# Altium schematic symbol library IC.SchLib: 114 symbols (part 2 of 3)
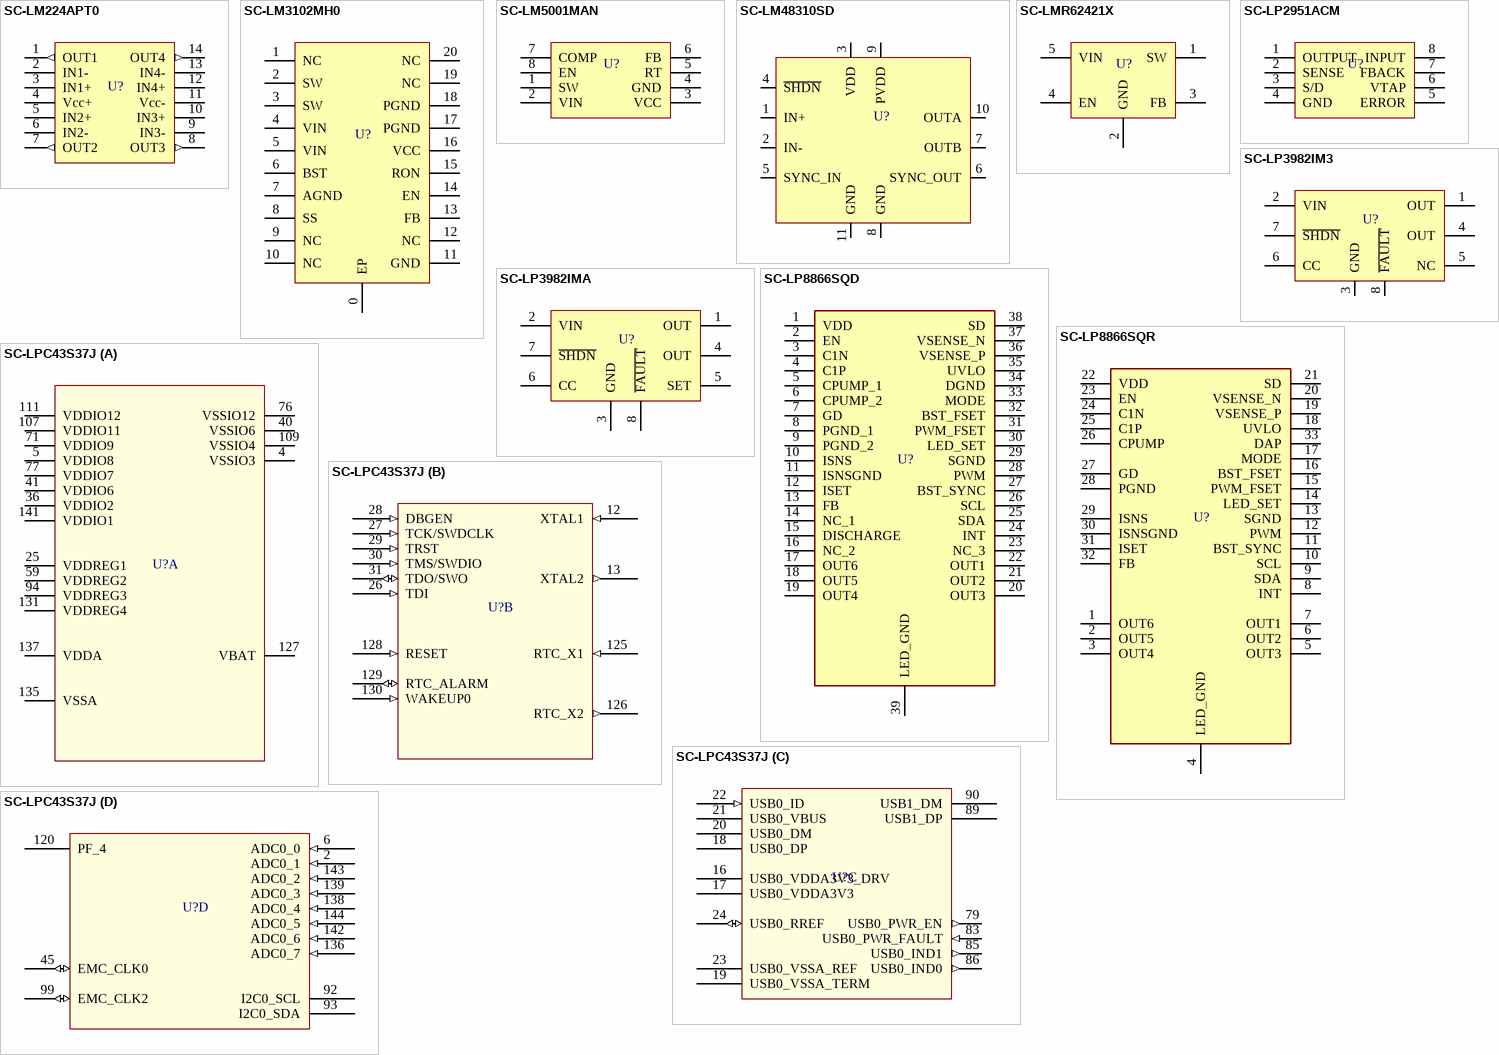
[diagram p8: symbols SC-LM224APT0 to SC-LPC43S37J]

## SC-LP8866SQR
designator U?
LED Driver IC 6 Output DC DC Controller SEPIC, Step-Up (Boost) Analog, I²C, PWM Dimming 150mA 32-VQFN (5x5); Manufacturer Part Number: LP8866SQRHBRQ1; Manufacturer: Texas Instruments; Working Temperature: -40°C ~ 125°C; Temperature Coefficient: NC; Short Description: AUTOMOTIVE DISPLAY LED-BACKLIGHT; Value: NC; Mounting: SMT; Power: NC; Type: NC; Frequency: NC; Alternate Part Number 1: *; Alternate Part Number 2: *; Tolerance: NC; Current: NC; Revision Date: 28/01/2022; Package Reference: VQFN-32_5x5; Voltage: NC; ComponentLink1Description: Datasheet; ComponentLink1URL: https://www.ti.com/lit/gpn/lp8866-q1
footprint VQFN-32_5x5 (32-VFQFN Exposed Pad)
pins: 1 OUT6, 2 OUT5, 3 OUT4, 4 LED_GND, 5 OUT3, 6 OUT2, 7 OUT1, 8 INT, 9 SDA, 10 SCL, 11 BST_SYNC, 12 PWM, 13 SGND, 14 LED_SET, 15 PWM_FSET, 16 BST_FSET, 17 MODE, 18 UVLO, 19 VSENSE_P, 20 VSENSE_N, 21 SD, 22 VDD, 23 EN, 24 C1N, 25 C1P, 26 CPUMP, 27 GD, 28 PGND, 29 ISNS, 30 ISNSGND, 31 ISET, 32 FB, 33 DAP

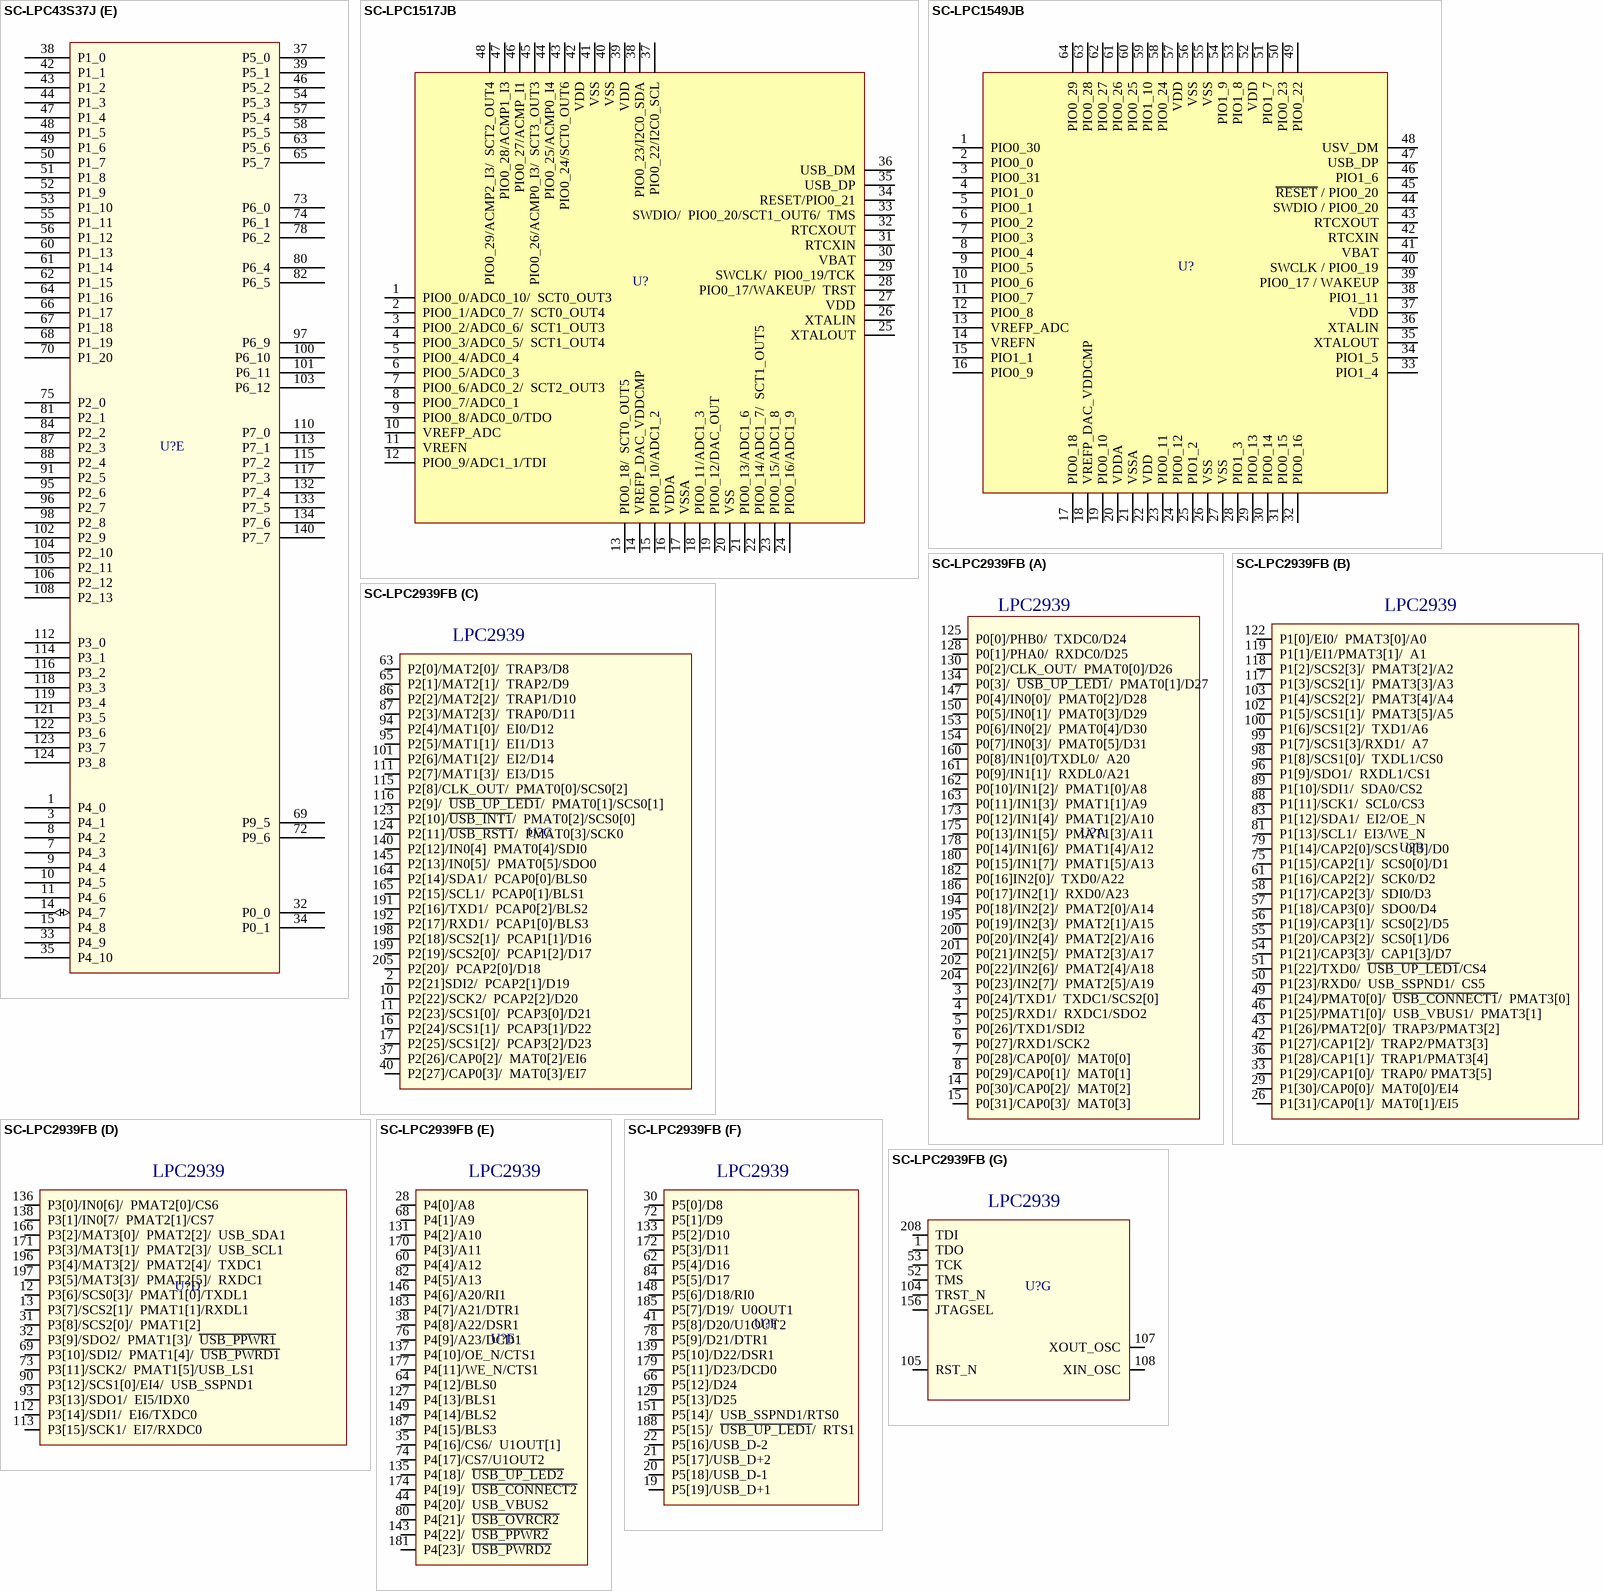
[diagram p4: symbols SC-LPC43S37J to SC-LPC2939FB]

## SC-LPC43S37J
designator U?
ARM® Cortex®-M4/M0 series Microcontroller IC 32-Bit Dual-Core 204MHz 1MB (1M x 8) FLASH 144-LQFP (20x20); Manufacturer Part Number: LPC43S37JBD144E; Manufacturer: NXP USA Inc.; Working Temperature: -40°C ~ 105°C (TA); Temperature Coefficient: NC; Short Description: IC MCU 32BIT 1MB FLASH 144LQFP; Ratings: REACH, ROHS3; Voltage: 2.2V ~ 3.6V; Value: NC; Mounting: SMT; Power: NC; Type: ARM® Cortex®-M4/M0; Frequency: 204MHz; Alternate Part Number 1: *; Alternate Part Number 2: *; Tolerance: NC; Current: NC; Revision Date: 03/08/21; Package Reference: LQFP-144
footprint LQFP-144 (Footprint not found)
part A pins: 4 VSSIO3 (power), 5 VDDIO8 (power), 25 VDDREG1 (power), 36 VDDIO2 (power), 40 VSSIO6 (power), 41 VDDIO6 (power), 59 VDDREG2 (power), 71 VDDIO9 (power), 76 VSSIO12 (power), 77 VDDIO7 (power), 94 VDDREG3 (power), 107 VDDIO11 (power), 109 VSSIO4 (power), 111 VDDIO12 (power), 127 VBAT (power), 131 VDDREG4 (power), 135 VSSA (power), 137 VDDA (power), 141 VDDIO1 (power)
part B pins: 12 XTAL1 (in), 13 XTAL2 (out), 26 TDI (in), 27 TCK/SWDCLK (in), 28 DBGEN (in), 29 TRST (in), 30 TMS/SWDIO (in), 31 TDO/SWO (io), 125 RTC_X1 (in), 126 RTC_X2 (out), 128 RESET (in), 129 RTC_ALARM (io), 130 WAKEUP0 (in)
part C pins: 16 USB0_VDDA3V3_DRV (power), 17 USB0_VDDA3V3 (power), 18 USB0_DP (hiz), 19 USB0_VSSA_TERM (power), 20 USB0_DM (hiz), 21 USB0_VBUS (hiz), 22 USB0_ID (in), 23 USB0_VSSA_REF (power), 24 USB0_RREF (io), 79 USB0_PWR_EN (out), 83 USB0_PWR_FAULT (in), 85 USB0_IND1 (out), 86 USB0_IND0 (out), 89 USB1_DP (hiz), 90 USB1_DM (hiz)
part D pins: 2 ADC0_1 (in), 6 ADC0_0 (in), 45 EMC_CLK0 (io), 92 I2C0_SCL (hiz), 93 I2C0_SDA (hiz), 99 EMC_CLK2 (io), 120 PF_4 (hiz), 136 ADC0_7 (in), 138 ADC0_4 (in), 139 ADC0_3 (in), 142 ADC0_6 (in), 143 ADC0_2 (in), 144 ADC0_5 (in)
part E pins: 1 P4_0 (hiz), 3 P4_1 (hiz), 7 P4_3 (hiz), 8 P4_2 (hiz), 9 P4_4 (hiz), 10 P4_5 (hiz), 11 P4_6 (hiz), 14 P4_7 (io), 15 P4_8 (hiz), 32 P0_0 (hiz), 33 P4_9 (hiz), 34 P0_1 (hiz), 35 P4_10 (hiz), 37 P5_0 (hiz), 38 P1_0 (hiz), 39 P5_1 (hiz), 42 P1_1 (hiz), 43 P1_2 (hiz), 44 P1_3 (hiz), 46 P5_2 (hiz), 47 P1_4 (hiz), 48 P1_5 (hiz), 49 P1_6 (hiz), 50 P1_7 (hiz), 51 P1_8 (hiz), 52 P1_9 (hiz), 53 P1_10 (hiz), 54 P5_3 (hiz), 55 P1_11 (hiz), 56 P1_12 (hiz), 57 P5_4 (hiz), 58 P5_5 (hiz), 60 P1_13 (hiz), 61 P1_14 (hiz), 62 P1_15 (hiz), 63 P5_6 (hiz), 64 P1_16 (hiz), 65 P5_7 (hiz), 66 P1_17 (hiz), 67 P1_18 (hiz), 68 P1_19 (hiz), 69 P9_5 (hiz), 70 P1_20 (hiz), 72 P9_6 (hiz), 73 P6_0 (hiz), 74 P6_1 (hiz), 75 P2_0 (hiz), 78 P6_2 (hiz), 80 P6_4 (hiz), 81 P2_1 (hiz), 82 P6_5 (hiz), 84 P2_2 (hiz), 87 P2_3 (hiz), 88 P2_4 (hiz), 91 P2_5 (hiz), 95 P2_6 (hiz), 96 P2_7 (hiz), 97 P6_9 (hiz), 98 P2_8 (hiz), 100 P6_10 (hiz), 101 P6_11 (hiz), 102 P2_9 (hiz), 103 P6_12 (hiz), 104 P2_10 (hiz), 105 P2_11 (hiz), 106 P2_12 (hiz), 108 P2_13 (hiz), 110 P7_0 (hiz), 112 P3_0 (hiz), 113 P7_1 (hiz), 114 P3_1 (hiz), 115 P7_2 (hiz), 116 P3_2 (hiz), 117 P7_3 (hiz), 118 P3_3 (hiz), 119 P3_4 (hiz), 121 P3_5 (hiz), 122 P3_6 (hiz), 123 P3_7 (hiz), 124 P3_8 (hiz), 132 P7_4 (hiz), 133 P7_5 (hiz), 134 P7_6 (hiz), 140 P7_7 (hiz)

## SC-LPC1517JB
designator U?
ARM® Cortex®-M3 series Microcontroller IC 32-Bit 72MHz 64KB (64K x 8) FLASH 48-LQFP (7x7); Manufacturer Part Number: LPC1517JBD48E; Manufacturer: NXP USA Inc.; Working Temperature: -40°C ~ 105°C (TA); Temperature Coefficient: NC; Short Description: IC MCU 32BIT 64KB FLASH 48LQFP; Ratings: REACH, ROHS3; Voltage: 2.4V ~ 3.6V; Value: NC; Mounting: SMT; Power: NC; Type: ARM® Cortex®-M3; Frequency: 72MHz; Alternate Part Number 1: *; Alternate Part Number 2: *; Tolerance: NC; Current: NC; Revision Date: 03/08/21; Package Reference: LQFP-48
footprint LQFP-48 (Footprint not found)
pins: 1 PIO0_0/ADC0_10/  SCT0_OUT3, 2 PIO0_1/ADC0_7/  SCT0_OUT4, 3 PIO0_2/ADC0_6/  SCT1_OUT3, 4 PIO0_3/ADC0_5/  SCT1_OUT4, 5 PIO0_4/ADC0_4, 6 PIO0_5/ADC0_3, 7 PIO0_6/ADC0_2/  SCT2_OUT3, 8 PIO0_7/ADC0_1, 9 PIO0_8/ADC0_0/TDO, 10 VREFP_ADC, 11 VREFN, 12 PIO0_9/ADC1_1/TDI, 13 PIO0_18/  SCT0_OUT5, 14 VREFP_DAC_VDDCMP, 15 PIO0_10/ADC1_2, 16 VDDA, 17 VSSA, 18 PIO0_11/ADC1_3, 19 PIO0_12/DAC_OUT, 20 VSS, 21 PIO0_13/ADC1_6, 22 PIO0_14/ADC1_7/  SCT1_OUT5, 23 PIO0_15/ADC1_8, 24 PIO0_16/ADC1_9, 25 XTALOUT, 26 XTALIN, 27 VDD, 28 PIO0_17/WAKEUP/  TRST, 29 SWCLK/  PIO0_19/TCK, 30 VBAT, 31 RTCXIN, 32 RTCXOUT, 33 SWDIO/  PIO0_20/SCT1_OUT6/  TMS, 34 RESET/PIO0_21, 35 USB_DP, 36 USB_DM, 37 PIO0_22/I2C0_SCL, 38 PIO0_23/I2C0_SDA, 39 VDD, 40 VSS, 41 VSS, 42 VDD, 43 PIO0_24/SCT0_OUT6, 44 PIO0_25/ACMP0_I4, 45 PIO0_26/ACMP0_I3/  SCT3_OUT3, 46 PIO0_27/ACMP_I1, 47 PIO0_28/ACMP1_I3, 48 PIO0_29/ACMP2_I3/  SCT2_OUT4

## SC-LPC1549JB
designator U?
ARM® Cortex®-M3 series Microcontroller IC 32-Bit 72MHz 256KB (256K x 8) FLASH 64-LQFP (10x10); Manufacturer Part Number: LPC1549JBD64QL; Manufacturer: NXP USA Inc.; Working Temperature: -40°C ~ 105°C (TA); Temperature Coefficient: NC; Short Description: IC MCU 32BIT 256KB FLASH 64LQFP; Ratings: REACH, ROHS3; Voltage: 2.4V ~ 3.6V; Value: NC; Mounting: SMT; Power: NC; Type: ARM® Cortex®-M3; Frequency: 72MHz; Alternate Part Number 1: *; Alternate Part Number 2: *; Tolerance: NC; Current: NC; Revision Date: 03/08/21; Package Reference: LQFP-64
footprint LQFP-64 (Footprint not found)
pins: 1 PIO0_30, 2 PIO0_0, 3 PIO0_31, 4 PIO1_0, 5 PIO0_1, 6 PIO0_2, 7 PIO0_3, 8 PIO0_4, 9 PIO0_5, 10 PIO0_6, 11 PIO0_7, 12 PIO0_8, 13 VREFP_ADC, 14 VREFN, 15 PIO1_1, 16 PIO0_9, 17 PIO0_18, 18 VREFP_DAC_VDDCMP, 19 PIO0_10, 20 VDDA, 21 VSSA, 22 VDD, 23 PIO0_11, 24 PIO0_12, 25 PIO1_2, 26 VSS, 27 VSS, 28 PIO1_3, 29 PIO0_13, 30 PIO0_14, 31 PIO0_15, 32 PIO0_16, 33 PIO1_4, 34 PIO1_5, 35 XTALOUT, 36 XTALIN, 37 VDD, 38 PIO1_11, 39 PIO0_17 / WAKEUP, 40 SWCLK / PIO0_19, 41 VBAT, 42 RTCXIN, 43 RTCXOUT, 44 SWDIO / PIO0_20, 45 ~{RESET} / PIO0_20, 46 PIO1_6, 47 USB_DP, 48 USV_DM, 49 PIO0_22, 50 PIO0_23, 51 PIO1_7, 52 VDD, 53 PIO1_8, 54 PIO1_9, 55 VSS, 56 VSS, 57 VDD, 58 PIO0_24, 59 PIO1_10, 60 PIO0_25, 61 PIO0_26, 62 PIO0_27, 63 PIO0_28, 64 PIO0_29

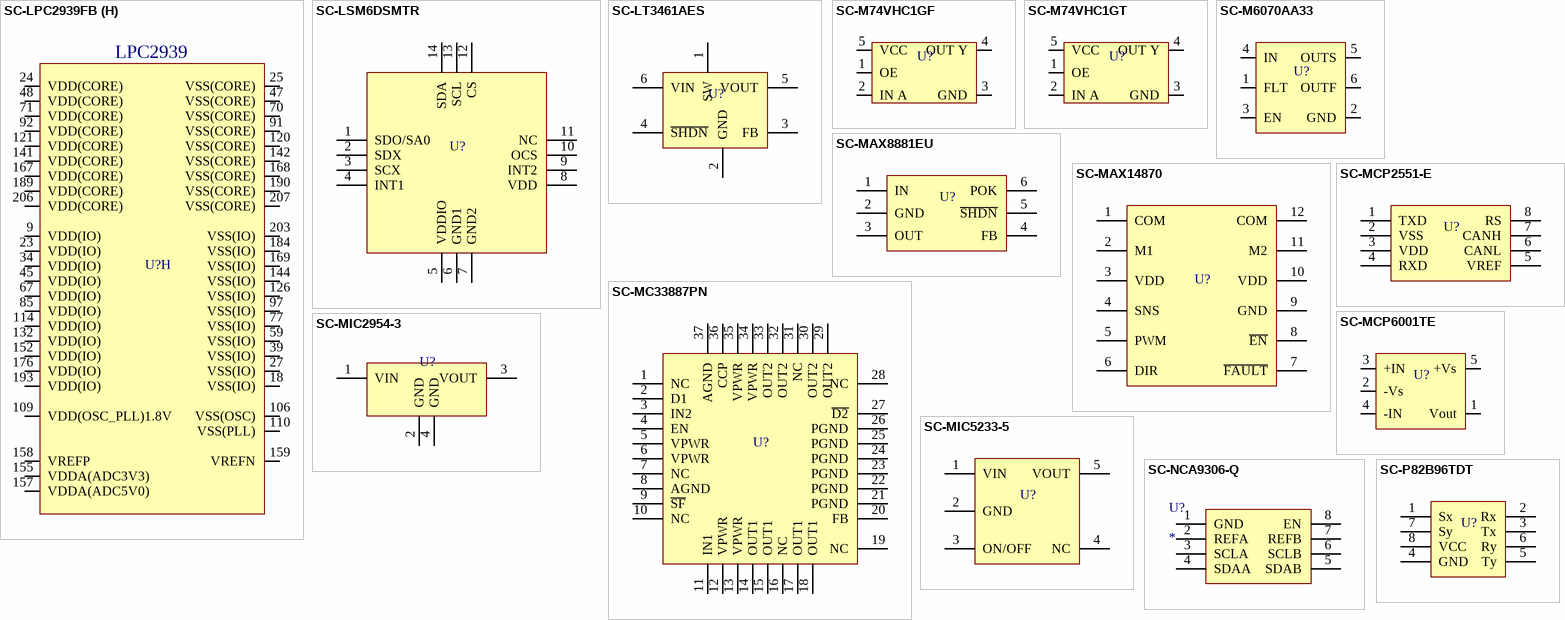
[diagram p5: symbols SC-LPC2939FB to SC-P82B96TDT]

## SC-LPC2939FB
designator U?
ARM9® series Microcontroller IC 16/32-Bit 125MHz 768KB (768K x 8) FLASH 208-LQFP (28x28); Manufacturer Part Number: LPC2939FBD208,551; Manufacturer: NXP USA Inc.; Working Temperature: -40°C ~ 85°C (TA); Temperature Coefficient: NC; Short Description: IC MCU 16/32B 768KB FLSH 208LQFP; Ratings: REACH, ROHS3; Voltage: 1.71V ~ 3.6V; Value: NC; Mounting: SMT; Power: NC; Type: ARM9®; Frequency: 125MHz; Alternate Part Number 1: *; Alternate Part Number 2: *; Tolerance: NC; Current: NC; Revision Date: 03/08/21; Package Reference: LQFP-208
footprint LQFP-208 (Footprint not found)
part A pins: 3 P0[24]/TXD1/  TXDC1/SCS2[0], 4 P0[25]/RXD1/  RXDC1/SDO2, 5 P0[26]/TXD1/SDI2, 6 P0[27]/RXD1/SCK2, 7 P0[28]/CAP0[0]/  MAT0[0], 8 P0[29]/CAP0[1]/  MAT0[1], 14 P0[30]/CAP0[2]/  MAT0[2], 15 P0[31]/CAP0[3]/  MAT0[3], 125 P0[0]/PHB0/  TXDC0/D24, 128 P0[1]/PHA0/  RXDC0/D25, 130 P0[2]/CLK_OUT/  PMAT0[0]/D26, 134 P0[3]/  ~{USB_UP_LED1}/  PMAT0[1]/D27, 147 P0[4]/IN0[0]/  PMAT0[2]/D28, 150 P0[5]/IN0[1]/  PMAT0[3]/D29, 153 P0[6]/IN0[2]/  PMAT0[4]/D30, 154 P0[7]/IN0[3]/  PMAT0[5]/D31, 160 P0[8]/IN1[0]/TXDL0/  A20, 161 P0[9]/IN1[1]/  RXDL0/A21, 162 P0[10]/IN1[2]/  PMAT1[0]/A8, 163 P0[11]/IN1[3]/  PMAT1[1]/A9, 173 P0[12]/IN1[4]/  PMAT1[2]/A10, 175 P0[13]/IN1[5]/  PMAT1[3]/A11, 178 P0[14]/IN1[6]/  PMAT1[4]/A12, 180 P0[15]/IN1[7]/  PMAT1[5]/A13, 182 P0[16]IN2[0]/  TXD0/A22, 186 P0[17]/IN2[1]/  RXD0/A23, 194 P0[18]/IN2[2]/  PMAT2[0]/A14, 195 P0[19]/IN2[3]/  PMAT2[1]/A15, 200 P0[20]/IN2[4]/  PMAT2[2]/A16, 201 P0[21]/IN2[5]/  PMAT2[3]/A17, 202 P0[22]/IN2[6]/  PMAT2[4]/A18, 204 P0[23]/IN2[7]/  PMAT2[5]/A19
part B pins: 26 P1[31]/CAP0[1]/  MAT0[1]/EI5, 29 P1[30]/CAP0[0]/  MAT0[0]/EI4, 33 P1[29]/CAP1[0]/  TRAP0/ PMAT3[5], 36 P1[28]/CAP1[1]/  TRAP1/PMAT3[4], 42 P1[27]/CAP1[2]/  TRAP2/PMAT3[3], 43 P1[26]/PMAT2[0]/  TRAP3/PMAT3[2], 46 P1[25]/PMAT1[0]/  USB_VBUS1/  PMAT3[1], 49 P1[24]/PMAT0[0]/  ~{USB_CONNECT1}/  PMAT3[0], 50 P1[23]/RXD0/  USB_SSPND1/  CS5, 51 P1[22]/TXD0/  ~{USB_UP_LED1}/CS4, 54 P1[21]/CAP3[3]/  CAP1[3]/D7, 55 P1[20]/CAP3[2]/  SCS0[1]/D6, 56 P1[19]/CAP3[1]/  SCS0[2]/D5, 57 P1[18]/CAP3[0]/  SDO0/D4, 58 P1[17]/CAP2[3]/  SDI0/D3, 61 P1[16]/CAP2[2]/  SCK0/D2, 75 P1[15]/CAP2[1]/  SCS0[0]/D1, 79 P1[14]/CAP2[0]/SCS  0[3]/D0, 81 P1[13]/SCL1/  EI3/WE_N, 83 P1[12]/SDA1/  EI2/OE_N, 88 P1[11]/SCK1/  SCL0/CS3, 89 P1[10]/SDI1/  SDA0/CS2, 96 P1[9]/SDO1/  RXDL1/CS1, 98 P1[8]/SCS1[0]/  TXDL1/CS0, 99 P1[7]/SCS1[3]/RXD1/  A7, 100 P1[6]/SCS1[2]/  TXD1/A6, 102 P1[5]/SCS1[1]/  PMAT3[5]/A5, 103 P1[4]/SCS2[2]/  PMAT3[4]/A4, 117 P1[3]/SCS2[1]/  PMAT3[3]/A3, 118 P1[2]/SCS2[3]/  PMAT3[2]/A2, 119 P1[1]/EI1/PMAT3[1]/  A1, 122 P1[0]/EI0/  PMAT3[0]/A0
part C pins: 2 P2[21]SDI2/  PCAP2[1]/D19, 10 P2[22]/SCK2/  PCAP2[2]/D20, 11 P2[23]/SCS1[0]/  PCAP3[0]/D21, 16 P2[24]/SCS1[1]/  PCAP3[1]/D22, 17 P2[25]/SCS1[2]/  PCAP3[2]/D23, 37 P2[26]/CAP0[2]/  MAT0[2]/EI6, 40 P2[27]/CAP0[3]/  MAT0[3]/EI7, 63 P2[0]/MAT2[0]/  TRAP3/D8, 65 P2[1]/MAT2[1]/  TRAP2/D9, 86 P2[2]/MAT2[2]/  TRAP1/D10, 87 P2[3]/MAT2[3]/  TRAP0/D11, 94 P2[4]/MAT1[0]/  EI0/D12, 95 P2[5]/MAT1[1]/  EI1/D13, 101 P2[6]/MAT1[2]/  EI2/D14, 111 P2[7]/MAT1[3]/  EI3/D15, 115 P2[8]/CLK_OUT/  PMAT0[0]/SCS0[2], 116 P2[9]/  ~{USB_UP_LED1}/  PMAT0[1]/SCS0[1], 123 P2[10]/~{USB_INT1}/  PMAT0[2]/SCS0[0], 124 P2[11]/~{USB_RST1}/  PMAT0[3]/SCK0, 140 P2[12]/IN0[4]  PMAT0[4]/SDI0, 145 P2[13]/IN0[5]/  PMAT0[5]/SDO0, 164 P2[14]/SDA1/  PCAP0[0]/BLS0, 165 P2[15]/SCL1/  PCAP0[1]/BLS1, 191 P2[16]/TXD1/  PCAP0[2]/BLS2, 192 P2[17]/RXD1/  PCAP1[0]/BLS3, 198 P2[18]/SCS2[1]/  PCAP1[1]/D16, 199 P2[19]/SCS2[0]/  PCAP1[2]/D17, 205 P2[20]/  PCAP2[0]/D18
part D pins: 12 P3[6]/SCS0[3]/  PMAT1[0]/TXDL1, 13 P3[7]/SCS2[1]/  PMAT1[1]/RXDL1, 31 P3[8]/SCS2[0]/  PMAT1[2], 32 P3[9]/SDO2/  PMAT1[3]/  ~{USB_PPWR1}, 69 P3[10]/SDI2/  PMAT1[4]/  ~{USB_PWRD1}, 73 P3[11]/SCK2/  PMAT1[5]/USB_LS1, 90 P3[12]/SCS1[0]/EI4/  USB_SSPND1, 93 P3[13]/SDO1/  EI5/IDX0, 112 P3[14]/SDI1/  EI6/TXDC0, 113 P3[15]/SCK1/  EI7/RXDC0, 136 P3[0]/IN0[6]/  PMAT2[0]/CS6, 138 P3[1]/IN0[7/  PMAT2[1]/CS7, 166 P3[2]/MAT3[0]/  PMAT2[2]/  USB_SDA1, 171 P3[3]/MAT3[1]/  PMAT2[3]/  USB_SCL1, 196 P3[4]/MAT3[2]/  PMAT2[4]/  TXDC1, 197 P3[5]/MAT3[3]/  PMAT2[5]/  RXDC1
part E pins: 28 P4[0]/A8, 35 P4[16]/CS6/  U1OUT[1], 38 P4[8]/A22/DSR1, 44 P4[20]/  USB_VBUS2, 60 P4[4]/A12, 64 P4[12]/BLS0, 68 P4[1]/A9, 74 P4[17]/CS7/U1OUT2, 76 P4[9]/A23/DCD1, 80 P4[21]/  ~{USB_OVRCR2}, 82 P4[5]/A13, 127 P4[13]/BLS1, 131 P4[2]/A10, 135 P4[18]/  ~{USB_UP_LED2}, 137 P4[10]/OE_N/CTS1, 143 P4[22]/  ~{USB_PPWR2}, 146 P4[6]/A20/RI1, 149 P4[14]/BLS2, 170 P4[3]/A11, 174 P4[19]/  ~{USB_CONNECT2}, 177 P4[11]/WE_N/CTS1, 181 P4[23]/  ~{USB_PWRD2}, 183 P4[7]/A21/DTR1, 187 P4[15]/BLS3
part F pins: 19 P5[19]/USB_D+1, 20 P5[18]/USB_D-1, 21 P5[17]/USB_D+2, 22 P5[16]/USB_D-2, 30 P5[0]/D8, 41 P5[8]/D20/U1OUT2, 62 P5[4]/D16, 66 P5[12]/D24, 72 P5[1]/D9, 78 P5[9]/D21/DTR1, 84 P5[5]/D17, 129 P5[13]/D25, 133 P5[2]/D10, 139 P5[10]/D22/DSR1, 148 P5[6]/D18/RI0, 151 P5[14]/  USB_SSPND1/RTS0, 172 P5[3]/D11, 179 P5[11]/D23/DCD0, 185 P5[7]/D19/  U0OUT1, 188 P5[15]/  ~{USB_UP_LED1}/  RTS1
part G pins: 1 TDO, 52 TMS, 53 TCK, 104 TRST_N, 105 RST_N, 107 XOUT_OSC, 108 XIN_OSC, 156 JTAGSEL, 208 TDI
part H pins: 9 VDD(IO), 18 VSS(IO), 23 VDD(IO), 24 VDD(CORE), 25 VSS(CORE), 27 VSS(IO), 34 VDD(IO), 39 VSS(IO), 45 VDD(IO), 47 VSS(CORE), 48 VDD(CORE), 59 VSS(IO), 67 VDD(IO), 70 VSS(CORE), 71 VDD(CORE), 77 VSS(IO), 85 VDD(IO), 91 VSS(CORE), 92 VDD(CORE), 97 VSS(IO), 106 VSS(OSC), 109 VDD(OSC_PLL)1.8V, 110 VSS(PLL), 114 VDD(IO), 120 VSS(CORE), 121 VDD(CORE), 126 VSS(IO), 132 VDD(IO), 141 VDD(CORE), 142 VSS(CORE), 144 VSS(IO), 152 VDD(IO), 155 VDDA(ADC3V3), 157 VDDA(ADC5V0), 158 VREFP, 159 VREFN, 167 VDD(CORE), 168 VSS(CORE), 169 VSS(IO), 176 VDD(IO), 184 VSS(IO), 189 VDD(CORE), 190 VSS(CORE), 193 VDD(IO), 203 VSS(IO), 206 VDD(CORE), 207 VSS(CORE)
part A text: LPC2939
part B text: LPC2939
part C text: LPC2939
part D text: LPC2939
part E text: LPC2939
part F text: LPC2939
part G text: LPC2939
part H text: LPC2939

## SC-LSM6DSMTR
designator U?
Accelerometer, Gyroscope, Temperature, 6 Axis Sensor I²C, SPI Output; Manufacturer Part Number: LSM6DSMTR; Manufacturer: STMicroelectronics; Working Temperature: -40°C ~ 85°C (TA); Temperature Coefficient: NC; Short Description: IMU ACCEL/GYRO I2C/SPI 14LGA; Ratings: REACH, ROHS3; Value: NC; Mounting: SMT; Power: NC; Type: IMU; Frequency: NC; Alternate Part Number 1: *; Alternate Part Number 2: *; Tolerance: NC; Current: NC; Revision Date: 03/08/21; Package Reference: VFLGA-14; Voltage: NC
footprint VFLGA-14 (Footprint not found)
pins: 1 SDO/SA0, 2 SDX, 3 SCX, 4 INT1, 5 VDDIO, 6 GND1, 7 GND2, 8 VDD, 9 INT2, 10 OCS, 11 NC, 12 CS, 13 SCL, 14 SDA

## SC-LT3461AES
designator U?
Boost Switching Regulator IC Positive Adjustable 1.255V 1 Output 300mA (Switch) SOT-23-6 Thin, TSOT-23-6; Manufacturer Part Number: LT3461AES6#TRMPBF; Manufacturer: Analog Devices Inc.; Working Temperature: 0°C ~ 70°C (TA); Temperature Coefficient: NC; Short Description: IC REG BOOST ADJ 300MA TSOT23-6; Ratings: REACH, ROHS3; Frequency: 3MHz; Value: NC; Mounting: SMT; Power: NC; Type: Step-Up; Alternate Part Number 1: *; Alternate Part Number 2: *; Tolerance: NC; Current: 300mA; Revision Date: 03/08/21; Package Reference: SOT-23-6; Voltage: NC
footprint SOT-23-6 (Footprint not found)
pins: 1 SW, 2 GND, 3 FB, 4 ~{SHDN}, 5 VOUT, 6 VIN

## SC-M74VHC1GF
designator U?
Buffer, Non-Inverting 1 Element 1 Bit per Element 3-State Output SC-88A (SC-70-5/SOT-353); Manufacturer Part Number: M74VHC1GT126DF1G; Manufacturer: ON Semiconductor; Working Temperature: -55°C ~ 125°C (TA); Temperature Coefficient: NC; Short Description: IC BUFFER NON-INVERT 5.5V SC88A; Ratings: REACH, ROHS3; Voltage: 3V ~ 5.5V; Value: NC; Mounting: SMT; Power: NC; Type: Buffer; Frequency: NC; Alternate Part Number 1: *; Alternate Part Number 2: *; Tolerance: NC; Current: NC; Revision Date: 03/08/21; Package Reference: SC-70-5
footprint SC-70-5
pins: 1 OE, 2 IN A, 3 GND, 4 OUT Y, 5 VCC

## SC-M74VHC1GT
designator U?
Buffer, Non-Inverting 1 Element 1 Bit per Element 3-State Output 5-TSOP; Manufacturer Part Number: M74VHC1GT126DT1G; Manufacturer: ON Semiconductor; Working Temperature: -55°C ~ 125°C (TA); Temperature Coefficient: NC; Short Description: IC BUFFER NON-INVERT 5.5V 5TSOP; Ratings: REACH, ROHS3; Voltage: 3V ~ 5.5V; Value: NC; Mounting: SMT; Power: NC; Type: Buffer; Frequency: NC; Alternate Part Number 1: *; Alternate Part Number 2: *; Tolerance: NC; Current: NC; Revision Date: 03/08/21; Package Reference: SOT-23-5
footprint SOT-23-5 (Footprint not found)
pins: 1 OE, 2 IN A, 3 GND, 4 OUT Y, 5 VCC

## SC-M6070AA33
designator U?
Series Voltage Reference IC Fixed 3.3V V ±0.04% 10 mA SOT-6; Manufacturer Part Number: MAX6070AAUT33+T; Manufacturer: Maxim Integrated; Working Temperature: -40°C ~ 125°C (TA); Temperature Coefficient: 6ppm/°C; Short Description: IC VREF SERIES 0.04% SOT6; Power: NC; Ratings: REACH, ROHS3; Current: 10mA; Value: NC; Mounting: SMT; Type: NC; Frequency: NC; Alternate Part Number 1: *; Alternate Part Number 2: *; Tolerance: ±0.04%; Revision Date: 16/09/21; Package Reference: SOT-23-6; Voltage: 3.3V
footprint SOT-23-6
pins: 1 FLT, 2 GND, 3 EN, 4 IN, 5 OUTS, 6 OUTF

## SC-MAX8881EU
designator U?
Linear Voltage Regulator IC Positive Fixed 1 Output 200mA SOT-6; Manufacturer Part Number: MAX8881EUT33+T; Manufacturer: Maxim Integrated; Working Temperature: -40°C ~ 85°C (TA); Temperature Coefficient: NC; Short Description: IC REG LINEAR 3.3V 200MA SOT23-6; Ratings: REACH, ROHS3; Voltage: 2.5V ~ 12V; Value: NC; Mounting: SMT; Power: NC; Type: Buck; Frequency: NC; Alternate Part Number 1: *; Alternate Part Number 2: *; Tolerance: NC; Current: 200mA; Revision Date: 15/10/21; Package Reference: SOT-23-6
footprint SOT-23-6 (Footprint not found)
pins: 1 IN, 2 GND, 3 OUT, 4 FB, 5 ~{SHDN}, 6 POK

## SC-MAX14870
designator U?
Motor Driver Bi-CMOS PWM 12-TDFN (3x3); Manufacturer Part Number: MAX14870ETC+T; Manufacturer: Maxim Integrated; Working Temperature: -40°C ~ 150°C (TJ); Temperature Coefficient: NC; Short Description: IC MOTOR DRIVER 4.5V-36V 12TDFN; Ratings: REACH, ROHS3; Current: 3A; Voltage: 4.5V ~ 36V; Value: NC; Mounting: SMT; Power: NC; Type: NC; Frequency: NC; Alternate Part Number 1: *; Alternate Part Number 2: *; Tolerance: NC; Revision Date: 14/10/21; Package Reference: *
footprint TDFN12-3X3 (Footprint not found)
pins: 1 COM, 2 M1, 3 VDD, 4 SNS, 5 PWM, 6 DIR, 7 ~{FAULT}, 8 ~{EN}, 9 GND, 10 VDD, 11 M2, 12 COM

## SC-MC33887PN
designator U?
Motor Driver Power MOSFET Parallel 36-PWR QFN (9x9); Manufacturer Part Number: MC33887PNB; Manufacturer: NXP USA Inc.; Working Temperature: -40°C ~ 150°C (TJ); Temperature Coefficient: NC; Short Description: IC MOTOR DRIVER 5V-28V 36PQFN; Ratings: REACH, ROHS3; Current: 5A; Voltage: 5V ~ 28V; Value: NC; Mounting: SMT; Power: NC; Type: Half Bridge (x2); Frequency: NC; Alternate Part Number 1: *; Alternate Part Number 2: *; Tolerance: NC; Revision Date: 03/08/21; Package Reference: PQFN-36_9X9
footprint PQFN-36_9x9 (Footprint not found)
pins: 1 NC, 2 D1, 3 IN2, 4 EN, 5 VPWR, 6 VPWR, 7 NC, 8 AGND, 9 ~{SF}, 10 NC, 11 IN1, 12 VPWR, 13 VPWR, 14 OUT1, 15 OUT1, 16 NC, 17 OUT1, 18 OUT1, 19 NC, 20 FB, 21 PGND, 22 PGND, 23 PGND, 24 PGND, 25 PGND, 26 PGND, 27 ~{D2}, 28 NC, 29 OUT2, 30 OUT2, 31 NC, 32 OUT2, 33 OUT2, 34 VPWR, 35 VPWR, 36 CCP, 37 AGND

## SC-MCP2551-E
designator U?
1/1 Transceiver Half CANbus 8-SOIC; Manufacturer Part Number: MCP2561-E/SN; Manufacturer: Microchip Technology; Working Temperature: -40°C ~ 125°C; Temperature Coefficient: NC; Short Description: IC TRANSCEIVER HALF 1/1 8SOIC; Ratings: REACH, ROHS3; Voltage: 4.5V ~ 5.5V; Value: NC; Mounting: SMT; Power: NC; Type: Half-Duplex; Frequency: NC; Alternate Part Number 1: *; Alternate Part Number 2: *; Tolerance: NC; Current: NC; Revision Date: 03/08/21; Package Reference: SOIC-8N
footprint SOIC-8N (Footprint not found)
pins: 1 TXD, 2 VSS, 3 VDD, 4 RXD, 5 VREF, 6 CANL, 7 CANH, 8 RS

## SC-MCP6001TE
designator U?
General Purpose Amplifier 1 Circuit Rail-to-Rail SC-70-5; Manufacturer Part Number: MCP6001T-E/LT; Manufacturer: Microchip Technology; Working Temperature: -40°C ~ 125°C; Temperature Coefficient: NC; Short Description: IC OPAMP GP 1 CIRCUIT SC70-5; Ratings: REACH, ROHS3; Current: 23 mA; Voltage: 1.8V ~ 6V; Value: NC; Mounting: SMT; Power: NC; Type: Rail-to-Rail; Frequency: NC; Alternate Part Number 1: *; Alternate Part Number 2: *; Tolerance: NC; Revision Date: 03/08/21; Package Reference: SC-70-5
footprint SC-70-5
pins: 1 Vout, 2 -Vs, 3 +IN, 4 -IN, 5 +Vs

## SC-MIC2954-3
designator U?
Linear Voltage Regulator IC Positive Fixed 1 Output 250mA SOT-223-3; Manufacturer Part Number: MIC2954-03WS-TR; Manufacturer: Microchip Technology; Working Temperature: -40°C ~ 125°C; Temperature Coefficient: NC; Short Description: IC REG LINEAR 5V 250MA SOT223-3; Ratings: REACH, ROHS3; Voltage: 30V; Value: NC; Mounting: SMT; Power: NC; Type: Linear; Frequency: NC; Alternate Part Number 1: *; Alternate Part Number 2: *; Tolerance: NC; Current: 250mA; Revision Date: 03/08/21; Package Reference: SOT-223
footprint SOT-223 (Footprint not found)
pins: 1 VIN, 2 GND, 3 VOUT, 4 GND

## SC-MIC5233-5
designator U?
Linear Voltage Regulator IC Positive Fixed 1 Output 100mA SOT-23-5; Manufacturer Part Number: MIC5233-5.0YM5-TR; Manufacturer: Microchip Technology; Working Temperature: -40°C ~ 125°C; Temperature Coefficient: NC; Short Description: IC REG LINEAR 5V 100MA SOT23-5; Ratings: REACH, ROHS3; Voltage: 36V; Value: NC; Mounting: SMT; Power: NC; Type: Linear; Frequency: NC; Alternate Part Number 1: *; Alternate Part Number 2: *; Tolerance: NC; Current: 100mA; Revision Date: 03/08/21; Package Reference: SOT-23-5
footprint SOT-23-5 (Footprint not found)
pins: 1 VIN, 2 GND, 3 ON/OFF, 4 NC, 5 VOUT

## SC-NCA9306-Q
designator U?
2-bit bidirectional I2C multi-voltage level translator; open-drain push-pull.; Manufacturer_Name: Nexperia; Manufacturer_Part_Number: NCA9306DC-Q100; Datasheet Link: https://www.mouser.com/datasheet/2/916/NCA9306_Q100-2933477.pdf; Height: 1mm; Mounting: SMT
footprint SOT765-1
pins: 1 GND, 2 REFA, 3 SCLA, 4 SDAA, 5 SDAB, 6 SCLB, 7 REFB, 8 EN

## SC-P82B96TDT
designator U?
Buffer, ReDriver 2 Channel 400kHz 8-SO; Manufacturer Part Number: P82B96TD-T; Manufacturer: NXP USA Inc.; Working Temperature: -40°C ~ 85°C; Temperature Coefficient: NC; Short Description: IC REDRIVER I2C 2CH 400KHZ 8SO; Ratings: REACH, ROHS3; Voltage: 2V ~ 15V; Value: NC; Mounting: SMT; Power: NC; Type: Buffer; Frequency: 400kHz; Alternate Part Number 1: *; Alternate Part Number 2: *; Tolerance: NC; Current: NC; Revision Date: 03/08/21; Package Reference: SOIC-8N
footprint SOIC-8N (Footprint not found)
pins: 1 Sx, 2 Rx, 3 Tx, 4 GND, 5 Ty, 6 Ry, 7 Sy, 8 VCC

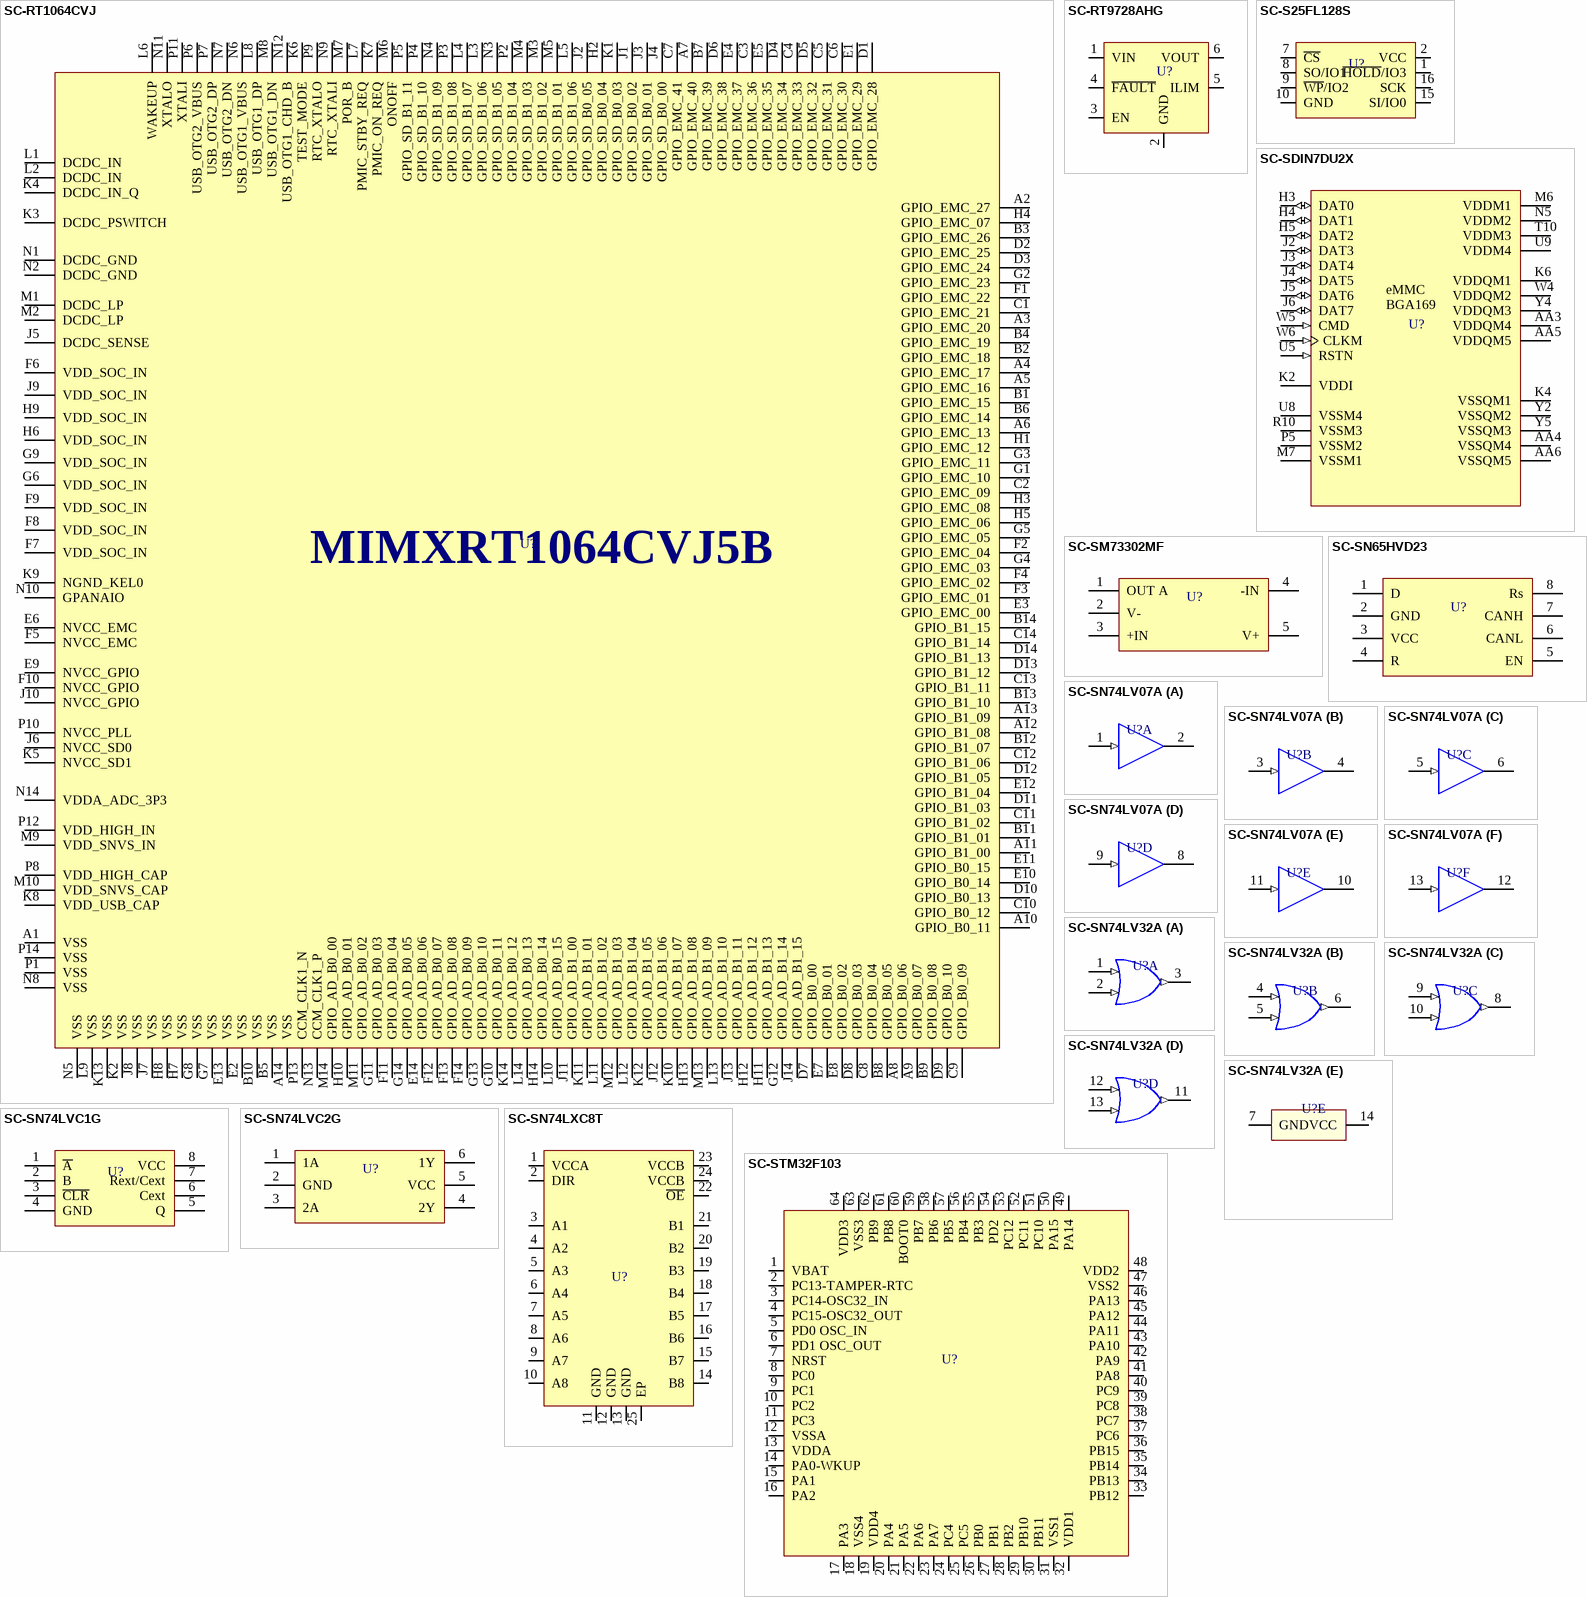
[diagram p6: symbols SC-RT1064CVJ to SC-STM32F103]

## SC-RT1064CVJ
designator U?
ARM® Cortex®-M7 series Microcontroller IC 32-Bit 528MHz 4MB (4M x 8) FLASH 196-LFBGA (12x12); Manufacturer Part Number: MIMXRT1064CVJ5B; Manufacturer: NXP USA Inc.; Working Temperature: -40°C ~ 105°C (TJ); Temperature Coefficient: NC; Short Description: IC MCU 32BIT 4MB FLASH 196LFBGA; Ratings: REACH, ROHS3; Voltage: 3V ~ 3.6V; Value: NC; Mounting: SMT; Power: NC; Type: NC; Frequency: 528MHz; Alternate Part Number 1: *; Alternate Part Number 2: *; Tolerance: NC; Current: NC; Revision Date: 25/08/21; Package Reference: LFBGA-196
footprint LFBGA-196_12x12
pins: A1 VSS, A2 GPIO_EMC_27, A3 GPIO_EMC_20, A4 GPIO_EMC_17, A5 GPIO_EMC_16, A6 GPIO_EMC_13, A7 GPIO_EMC_40, A8 GPIO_B0_06, A9 GPIO_B0_07, A10 GPIO_B0_11, A11 GPIO_B1_00, A12 GPIO_B1_08, A13 GPIO_B1_09, A14 VSS, B1 GPIO_EMC_15, B2 GPIO_EMC_18, B3 GPIO_EMC_26, B4 GPIO_EMC_19, B5 VSS, B6 GPIO_EMC_14, B7 GPIO_EMC_39, B8 GPIO_B0_05, B9 GPIO_B0_08, B10 VSS, B11 GPIO_B1_01, B12 GPIO_B1_07, B13 GPIO_B1_10, B14 GPIO_B1_15, C1 GPIO_EMC_21, C2 GPIO_EMC_09, C3 GPIO_EMC_36, C4 GPIO_EMC_33, C5 GPIO_EMC_31, C6 GPIO_EMC_30, C7 GPIO_EMC_41, C8 GPIO_B0_04, C9 GPIO_B0_09, C10 GPIO_B0_12, C11 GPIO_B1_02, C12 GPIO_B1_06, C13 GPIO_B1_11, C14 GPIO_B1_14, D1 GPIO_EMC_28, D2 GPIO_EMC_25, D3 GPIO_EMC_24, D4 GPIO_EMC_34, D5 GPIO_EMC_32, D6 GPIO_EMC_38, D7 GPIO_B0_00, D8 GPIO_B0_03, D9 GPIO_B0_10, D10 GPIO_B0_13, D11 GPIO_B1_03, D12 GPIO_B1_05, D13 GPIO_B1_12, D14 GPIO_B1_13, E1 GPIO_EMC_29, E2 VSS, E3 GPIO_EMC_00, E4 GPIO_EMC_37, E5 GPIO_EMC_35, E6 NVCC_EMC, E7 GPIO_B0_01, E8 GPIO_B0_02, E9 NVCC_GPIO, E10 GPIO_B0_14, E11 GPIO_B0_15, E12 GPIO_B1_04, E13 VSS, E14 GPIO_AD_B0_06, F1 GPIO_EMC_22, F2 GPIO_EMC_04, F3 GPIO_EMC_01, F4 GPIO_EMC_02, F5 NVCC_EMC, F6 VDD_SOC_IN, F7 VDD_SOC_IN, F8 VDD_SOC_IN, F9 VDD_SOC_IN, F10 NVCC_GPIO, F11 GPIO_AD_B0_04, F12 GPIO_AD_B0_07, F13 GPIO_AD_B0_08, F14 GPIO_AD_B0_09, G1 GPIO_EMC_10, G2 GPIO_EMC_23, G3 GPIO_EMC_11, G4 GPIO_EMC_03, G5 GPIO_EMC_05, G6 VDD_SOC_IN, G7 VSS, G8 VSS, G9 VDD_SOC_IN, G10 GPIO_AD_B0_11, G11 GPIO_AD_B0_03, G12 GPIO_AD_B1_14, G13 GPIO_AD_B0_10, G14 GPIO_AD_B0_05, H1 GPIO_EMC_12, H2 GPIO_SD_B0_04, H3 GPIO_EMC_08, H4 GPIO_EMC_07, H5 GPIO_EMC_06, H6 VDD_SOC_IN, H7 VSS, H8 VSS, H9 VDD_SOC_IN, H10 GPIO_AD_B0_01, H11 GPIO_AD_B1_13, H12 GPIO_AD_B1_12, H13 GPIO_AD_B1_08, H14 GPIO_AD_B0_14, J1 GPIO_SD_B0_02, J2 GPIO_SD_B0_05, J3 GPIO_SD_B0_01, J4 GPIO_SD_B0_00, J5 DCDC_SENSE, J6 NVCC_SD0, J7 VSS, J8 VSS, J9 VDD_SOC_IN, J10 NVCC_GPIO, J11 GPIO_AD_B1_00, J12 GPIO_AD_B1_06, J13 GPIO_AD_B1_11, J14 GPIO_AD_B1_15, K1 GPIO_SD_B0_03, K2 VSS, K3 DCDC_PSWITCH, K4 DCDC_IN_Q, K5 NVCC_SD1, K6 TEST_MODE, K7 PMIC_ON_REQ, K8 VDD_USB_CAP, K9 NGND_KEL0, K10 GPIO_AD_B1_07, K11 GPIO_AD_B1_01, K12 GPIO_AD_B1_05, K13 VSS, K14 GPIO_AD_B0_12, L1 DCDC_IN, L2 DCDC_IN, L3 GPIO_SD_B1_06, L4 GPIO_SD_B1_07, L5 GPIO_SD_B1_06, L6 WAKEUP, L7 PMIC_STBY_REQ, L8 USB_OTG1_DP, L9 VSS, L10 GPIO_AD_B0_15, L11 GPIO_AD_B1_02, L12 GPIO_AD_B1_04, L13 GPIO_AD_B1_10, L14 GPIO_AD_B0_13, M1 DCDC_LP, M2 DCDC_LP, M3 GPIO_SD_B1_02, M4 GPIO_SD_B1_03, M5 GPIO_SD_B1_01, M6 ONOFF, M7 POR_B, M8 USB_OTG1_DN, M9 VDD_SNVS_IN, M10 VDD_SNVS_CAP, M11 GPIO_AD_B0_02, M12 GPIO_AD_B1_03, M13 GPIO_AD_B1_09, M14 GPIO_AD_B0_00, N1 DCDC_GND, N2 DCDC_GND, N3 GPIO_SD_B1_05, N4 GPIO_SD_B1_09, N5 VSS, N6 USB_OTG1_VBUS, N7 USB_OTG2_DN, N8 VSS, N9 RTC_XTALI, N10 GPANAIO, N11 XTALO, N12 USB_OTG1_CHD_B, N13 CCM_CLK1_P, N14 VDDA_ADC_3P3, P1 VSS, P2 GPIO_SD_B1_04, P3 GPIO_SD_B1_08, P4 GPIO_SD_B1_10, P5 GPIO_SD_B1_11, P6 USB_OTG2_VBUS, P7 USB_OTG2_DP, P8 VDD_HIGH_CAP, P9 RTC_XTALO, P10 NVCC_PLL, P11 XTALI, P12 VDD_HIGH_IN, P13 CCM_CLK1_N, P14 VSS

## SC-RT9728AHG
designator U?
Power Switch/Driver 1:1 P-Channel 1.3A SOT-23-6; Manufacturer Part Number: RT9728AHGE; Manufacturer: Richtek USA Inc.; Working Temperature: -40°C ~ 85°C (TA); Temperature Coefficient: NC; Short Description: IC PWR SWITCH P-CHAN 1:1 SOT23-6; Ratings: REACH, ROHS3; Voltage: 2.5V ~ 5.5V; Value: NC; Mounting: SMT; Power: NC; Type: High Side; Frequency: NC; Alternate Part Number 1: *; Alternate Part Number 2: *; Tolerance: NC; Current: 1.3A; Revision Date: 03/08/21; Package Reference: SOT-23-6
footprint SOT-23-6 (Footprint not found)
pins: 1 VIN, 2 GND, 3 EN, 4 ~{FAULT} , 5 ILIM, 6 VOUT

## SC-S25FL128S
designator U?
FLASH - NOR Memory IC 128Mb (16M x 8) SPI - Quad I/O 133 MHz 16-SOIC; Manufacturer Part Number: S25FL128SAGMFI001; Manufacturer: Cypress Semiconductor Corp; Working Temperature: -40°C ~ 85°C (TA); Temperature Coefficient: NC; Short Description: IC FLASH 128MBIT SPI/QUAD 16SOIC; Ratings: REACH, ROHS3; Frequency: 133 MHz; Voltage: 2.7V ~ 3.6V; Value: NC; Mounting: SMT; Power: NC; Type: NC; Alternate Part Number 1: *; Alternate Part Number 2: *; Tolerance: NC; Current: NC; Revision Date: 17/11/21; Package Reference: 16-SOIC
footprint SOIC-16W
pins: 1 ~{HOLD}/IO3, 2 VCC, 7 ~{CS}, 8 SO/IO1, 9 ~{WP}/IO2, 10 GND, 15 SI/IO0, 16 SCK

## SC-SDIN7DU2X
designator U?
iNAND eMMC Flash 8Gb; Manufacturer Part Number: SDIN7DU2-8G; Manufacturer: Sandisk; Working Temperature: –25°C ~ +85°C; Temperature Coefficient: NC; Short Description: ND; Value: NC; Mounting: SMT; Power: NC; Ratings: *; Type: NC; Frequency: NC; Alternate Part Number 1: *; Alternate Part Number 2: *; Tolerance: NC; Current: NC; Revision Date: 03/08/21; Package Reference: *; Voltage: NC
footprint BGA-153
pins: AA3 VDDQM4 (power) "DQ Power", AA4 VSSQM4 (power) "DQ Ground", AA5 VDDQM5 (power) "DQ Power", AA6 VSSQM5 (power) "DQ Ground", H3 DAT0 (io) "Data Input/Output 0", H4 DAT1 (io) "Data Input/Output 1", H5 DAT2 (io) "Data Input/Output 2", J2 DAT3 (io) "Data Input/Output 3", J3 DAT4 (io) "Data Input/Output 4", J4 DAT5 (io) "Data Input/Output 5", J5 DAT6 (io) "Data Input/Output 6", J6 DAT7 (io) "Data Input/Output 7", K2 VDDI "No Connect", K4 VSSQM1 (power) "DQ Ground", K6 VDDQM1 (power) "DQ Power", M6 VDDM1 (power) "Power Supply", M7 VSSM1 (power) "Ground", N5 VDDM2 (power) "Power Supply", P5 VSSM2 (power) "Ground", R10 VSSM3 (power) "Ground", T10 VDDM3 (power) "Power Supply", U5 RSTN (in) "Clock Enable", U8 VSSM4 (power) "Ground", U9 VDDM4 (power) "Power Supply", W4 VDDQM2 (power) "DQ Power", W5 CMD (in) "Bank Address Input 1", W6 CLKM (in) "Clock", Y2 VSSQM2 (power) "DQ Ground", Y4 VDDQM3 (power) "DQ Power", Y5 VSSQM3 (power) "DQ Ground"
text: eMMC / BGA169

## SC-SM73302MF
designator U?
General Purpose Amplifier 1 Circuit Rail-to-Rail SOT-23-5; Manufacturer Part Number: SM73302MF/NOPB; Alternate Part Number 1: AD8601ARTZ; Manufacturer: Texas Instruments; Working Temperature: -40°C ~ 125°C; Temperature Coefficient: NC; Short Description: IC OPAMP GP 1 CIRCUIT SOT23-5; Ratings: ROHS3; Voltage: 2V ~ 5.5V; Value: NC; Mounting: SMT; Power: NC; Type: NC; Frequency: NC; Alternate Part Number 2: *; Tolerance: NC; Current: NC; Revision Date: 30/09/22; Package Reference: SOT-23-5
footprint SOT-23-5
pins: 1 OUT A, 2 V-, 3 +IN, 4 -IN, 5 V+

## SC-SN65HVD23
designator U?
1/1 Transceiver Half CANbus 8-SOIC; Manufacturer Part Number: SN65HVD234DR; Manufacturer: Texas Instruments; Working Temperature: -40°C ~ 125°C; Temperature Coefficient: NC; Short Description: IC TRANSCEIVER HALF 1/1 8SOIC; Ratings: REACH, ROHS3; Frequency: 1Mbps; Voltage: 3V ~ 3.6V; Value: NC; Mounting: SMT; Power: NC; Type: Half-Duplex; Alternate Part Number 1: *; Alternate Part Number 2: *; Tolerance: NC; Current: NC; Revision Date: 03/08/21; Package Reference: SOIC-8N
footprint SOIC-8N (Footprint not found)
pins: 1 D, 2 GND, 3 VCC, 4 R, 5 EN, 6 CANL, 7 CANH, 8 Rs

## SC-SN74LV07A
designator U?
Buffer, Non-Inverting 6 Element 1 Bit per Element Open Drain Output 14-TSSOP; Manufacturer Part Number: SN74LV07APWR; Manufacturer: Texas Instruments; Working Temperature: -40°C ~ 125°C (TA); Temperature Coefficient: NC; Short Description: IC BUF NON-INVERT 5.5V 14TSSOP; Ratings: REACH, ROHS3; Voltage: 2V ~ 5.5V; Value: NC; Mounting: SMT; Power: NC; Type: Buffer; Frequency: NC; Alternate Part Number 1: *; Alternate Part Number 2: *; Tolerance: NC; Current: NC; Revision Date: 03/08/21; Package Reference: TSSOP-14
footprint TSSOP-14 (Footprint not found)
part A pins: 1 A (in), 2 Y (oc)
part B pins: 3 A (in), 4 Y (oc)
part C pins: 5 A (in), 6 Y (oc)
part D pins: 8 Y (oc), 9 A (in)
part E pins: 10 Y (oc), 11 A (in)
part F pins: 12 Y (oc), 13 A (in)

## SC-SN74LV32A
designator U?
OR GATE, 4CH; Manufacturer Part Number: SN74LV32APWR; Manufacturer: Texas Instruments; Working Temperature: -40°C ~ 125°C (TA); Temperature Coefficient: NC; Short Description: IC GATE OR 4CH 2-INP; Ratings: ROHS3; Voltage: 2V ~ 5.5V; Value: NC; Mounting: SMT; Power: NC; Type: NC; Frequency: NC; Alternate Part Number 1: *; Alternate Part Number 2: *; Tolerance: NC; Current: NC; Revision Date: 26/06/23; Package Reference: TSSOP-14
footprint TSSOP-14
part A pins: 1 1A (in), 2 1B (in), 3 1Y (out)
part B pins: 4 2A (in), 5 2B (in), 6 2Y (out)
part C pins: 8 3Y (out), 9 3A (in), 10 3B (in)
part D pins: 11 3Y (out), 12 3A (in), 13 3B (in)
part E pins: 7 GND (power), 14 VCC (power)

## SC-SN74LVC1G
designator U?
Monostable Multivibrator 18.5 ns SM8; Manufacturer Part Number: SN74LVC1G123DCTR; Manufacturer: Texas Instruments; Working Temperature: -40°C ~ 125°C; Temperature Coefficient: NC; Short Description: IC MULTIVIBRATOR 18.5NS SM8; Ratings: REACH, ROHS3; Voltage: 1.65 V ~ 5.5 V; Value: NC; Mounting: SMT; Power: NC; Type: Monostable; Frequency: NC; Alternate Part Number 1: *; Alternate Part Number 2: *; Tolerance: NC; Current: NC; Revision Date: 03/08/21; Package Reference: MSOP-8
footprint MSOP-8 (Footprint not found)
pins: 1 ~{A}, 2 B, 3 ~{CLR}, 4 GND, 5 Q, 6 Cext, 7 Rext/Cext, 8 VCC

## SC-SN74LVC2G
designator U?
Buffer, Non-Inverting 2 Element 1 Bit per Element Open Drain Output SC-70-6; Manufacturer Part Number: SN74LVC2G07DCKR; Manufacturer: Texas Instruments; Working Temperature: -40°C ~ 125°C (TA); Temperature Coefficient: NC; Short Description: SN74LVC2G07 DUAL BUFFER/DRIVER W; Ratings: ND; Voltage: 1.65V ~ 5.5V; Value: NC; Mounting: SMT; Power: NC; Type: Buffer; Frequency: NC; Alternate Part Number 1: *; Alternate Part Number 2: *; Tolerance: NC; Current: NC; Revision Date: 03/08/21; Package Reference: SOT-363-6
footprint SOT-363-6 (Footprint not found)
pins: 1 1A, 2 GND, 3 2A, 4 2Y, 5 VCC, 6 1Y

## SC-SN74LXC8T
designator U?
Voltage Level Translator Bidirectional 1 Circuit 8 Channel 420Mbps 24-VQFN (5.5x3.5); Manufacturer Part Number: SN74LXC8T245RHLR; Manufacturer: Texas Instruments; Working Temperature: -40°C ~ 125°C (TA); Temperature Coefficient: NC; Short Description: 8-BIT DUAL-SUPPLY BUS TRANSCEIVE; Ratings: REACH, ROHS3; Value: NC; Mounting: SMT; Power: NC; Type: NC; Frequency: NC; Alternate Part Number 1: *; Alternate Part Number 2: *; Tolerance: NC; Current: NC; Revision Date: 24/09/21; Package Reference: VQFN-24; Voltage: NC
footprint VQFN-24_5.5X3.5
pins: 1 VCCA, 2 DIR, 3 A1, 4 A2, 5 A3, 6 A4, 7 A5, 8 A6, 9 A7, 10 A8, 11 GND, 12 GND, 13 GND, 14 B8, 15 B7, 16 B6, 17 B5, 18 B4, 19 B3, 20 B2, 21 B1, 22 ~{OE}, 23 VCCB, 24 VCCB, 25 EP

## SC-STM32F103
designator U?
ARM® Cortex®-M3 series Microcontroller IC 32-Bit 72MHz 256KB (256K x 8) FLASH 64-LQFP (10x10); Manufacturer Part Number: STM32F103RCT7; Manufacturer: STMicroelectronics; Working Temperature: -40°C ~ 105°C (TA); Temperature Coefficient: NC; Short Description: IC MCU 32BIT 256KB FLASH 64LQFP; Ratings: REACH, ROHS3; Voltage: 2V ~ 3.6V; Value: NC; Mounting: SMT; Power: NC; Type: ARM® Cortex®-M3; Frequency: 72MHz; Alternate Part Number 1: *; Alternate Part Number 2: *; Tolerance: NC; Current: NC; Revision Date: 03/08/21; Package Reference: LQFP-64
footprint LQFP-64 (Footprint not found)
pins: 1 VBAT, 2 PC13-TAMPER-RTC, 3 PC14-OSC32_IN, 4 PC15-OSC32_OUT, 5 PD0 OSC_IN, 6 PD1 OSC_OUT, 7 NRST, 8 PC0, 9 PC1, 10 PC2, 11 PC3, 12 VSSA, 13 VDDA, 14 PA0-WKUP, 15 PA1, 16 PA2, 17 PA3, 18 VSS4, 19 VDD4, 20 PA4, 21 PA5, 22 PA6, 23 PA7, 24 PC4, 25 PC5, 26 PB0, 27 PB1, 28 PB2, 29 PB10, 30 PB11, 31 VSS1, 32 VDD1, 33 PB12, 34 PB13, 35 PB14, 36 PB15, 37 PC6, 38 PC7, 39 PC8, 40 PC9, 41 PA8, 42 PA9, 43 PA10, 44 PA11, 45 PA12, 46 PA13, 47 VSS2, 48 VDD2, 49 PA14, 50 PA15, 51 PC10, 52 PC11, 53 PC12, 54 PD2, 55 PB3, 56 PB4, 57 PB5, 58 PB6, 59 PB7, 60 BOOT0, 61 PB8, 62 PB9, 63 VSS3, 64 VDD3

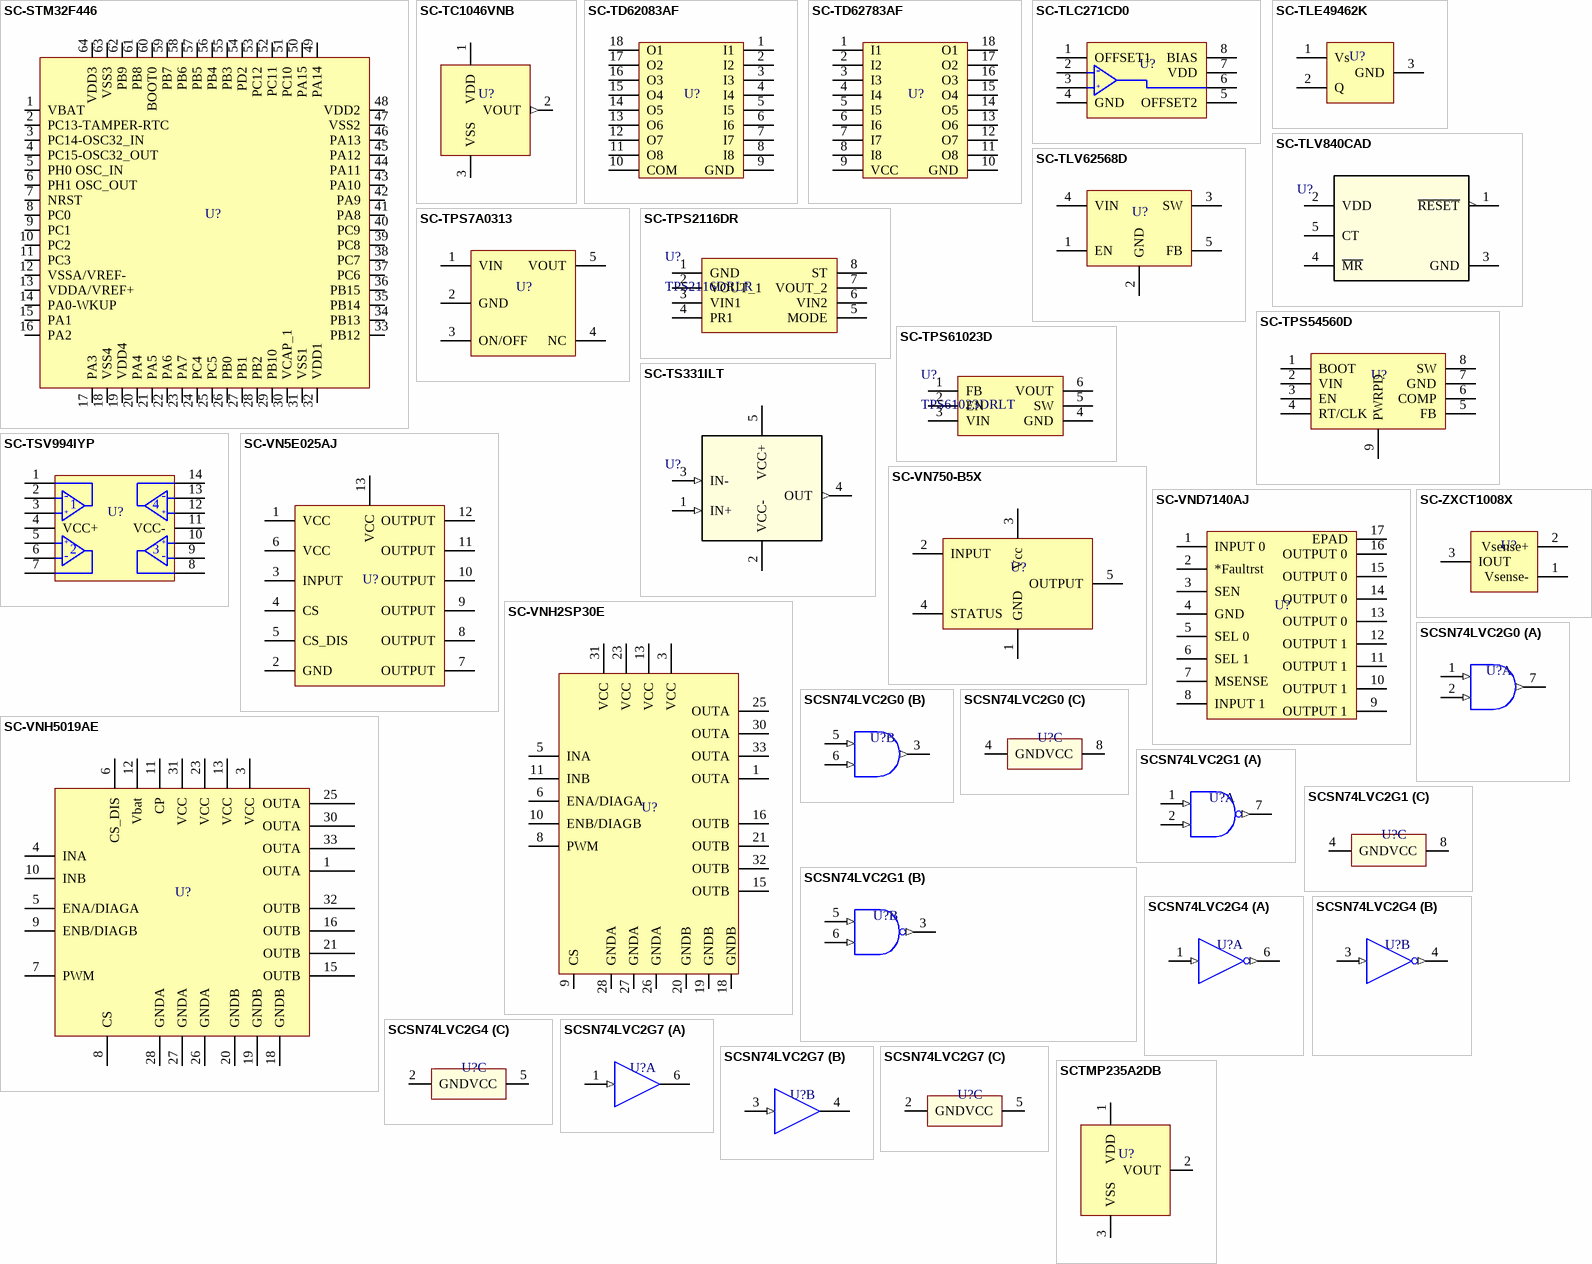
[diagram p7: symbols SC-STM32F446 to SCTMP235A2DB]

## SC-STM32F446
designator U?
ARM® Cortex®-M4 series Microcontroller IC 32-Bit 180MHz 512KB (512K x 8) FLASH 64-LQFP (10x10); Manufacturer Part Number: STM32F446RET6; Manufacturer: STMicroelectronics; Working Temperature: -40°C ~ 85°C (TA); Temperature Coefficient: NC; Short Description: IC MCU 32BIT 512KB FLASH 64LQFP; Ratings: REACH, ROHS3; Voltage: 1.7V ~ 3.6V; Value: NC; Mounting: SMT; Power: NC; Type: ARM® Cortex®-M4; Frequency: 180MHz; Alternate Part Number 1: *; Alternate Part Number 2: *; Tolerance: NC; Current: NC; Revision Date: 03/08/21; Package Reference: LQFP-64
footprint LQFP-64 (Footprint not found)
pins: 1 VBAT, 2 PC13-TAMPER-RTC, 3 PC14-OSC32_IN, 4 PC15-OSC32_OUT, 5 PH0 OSC_IN, 6 PH1 OSC_OUT, 7 NRST, 8 PC0, 9 PC1, 10 PC2, 11 PC3, 12 VSSA/VREF-, 13 VDDA/VREF+, 14 PA0-WKUP, 15 PA1, 16 PA2, 17 PA3, 18 VSS4, 19 VDD4, 20 PA4, 21 PA5, 22 PA6, 23 PA7, 24 PC4, 25 PC5, 26 PB0, 27 PB1, 28 PB2, 29 PB10, 30 VCAP_1, 31 VSS1, 32 VDD1, 33 PB12, 34 PB13, 35 PB14, 36 PB15, 37 PC6, 38 PC7, 39 PC8, 40 PC9, 41 PA8, 42 PA9, 43 PA10, 44 PA11, 45 PA12, 46 PA13, 47 VSS2, 48 VDD2, 49 PA14, 50 PA15, 51 PC10, 52 PC11, 53 PC12, 54 PD2, 55 PB3, 56 PB4, 57 PB5, 58 PB6, 59 PB7, 60 BOOT0, 61 PB8, 62 PB9, 63 VSS3, 64 VDD3

## SC-TC1046VNB
designator U?
Temperature Sensor Analog, Local -40°C ~ 125°C 6.25mV/°C SOT-23-3; Manufacturer Part Number: TC1046VNBTR; Manufacturer: Microchip Technology; Temperature Coefficient: NC; Short Description: SENSOR ANALOG -40C-125C SOT23-3; Ratings: REACH, ROHS3; Voltage: 2.7V ~ 4.4V; Value: NC; Working Temperature: -40°C ~ 125°C; Mounting: SMT; Power: NC; Type: Temperature Sensor; Frequency: NC; Alternate Part Number 1: *; Alternate Part Number 2: *; Tolerance: NC; Current: NC; Revision Date: 03/08/21; Package Reference: SOT-23-3; ComponentLink1Description: Datasheet; ComponentLink1URL: https://ww1.microchip.com/downloads/aemDocuments/documents/APID/ProductDocuments/DataSheets/21496C.pdf
footprint SOT-23-3 (Footprint not found)
pins: 1 VDD (power), 2 VOUT (out), 3 VSS (power)

## SC-TD62083AF
designator U?
8/0 D Darlington driver - 18-SSOP; Manufacturer Part Number: TD62083AFNG(O,N,EL; Manufacturer: Toshiba Semiconductor and Storage; Working Temperature: -40°C ~ 85°C; Temperature Coefficient: NC; Short Description: IC DRIVER 8/0 18SSOP; Ratings: ND; Current: 500mA; Voltage: 5V; Value: NC; Mounting: SMT; Power: NC; Type: Driver; Frequency: NC; Alternate Part Number 1: *; Alternate Part Number 2: *; Tolerance: NC; Revision Date: 03/08/21; Package Reference: SSOP-18
footprint SSOP-18 (Footprint not found)
pins: 1 I1, 2 I2, 3 I3, 4 I4, 5 I5, 6 I6, 7 I7, 8 I8, 9 GND, 10 COM, 11 O8, 12 O7, 13 O6, 14 O5, 15 O4, 16 O3, 17 O2, 18 O1

## SC-TD62783AF
designator U?
Source-type darlington driver; Manufacturer Part Number: TD62783AFNG(O,S); Manufacturer: Toshiba Semiconductor and Storage; Working Temperature: -40°C ~ 85°C; Temperature Coefficient: NC; Short Description: ND; Current: -500mA; Voltage: 5V; Value: NC; Mounting: SMT; Power: NC; Ratings: ND; Type: Driver; Frequency: NC; Alternate Part Number 1: *; Alternate Part Number 2: *; Tolerance: NC; Revision Date: 03/08/21; Package Reference: SSOP-18
footprint SSOP-18 (Footprint not found)
pins: 1 I1, 2 I2, 3 I3, 4 I4, 5 I5, 6 I6, 7 I7, 8 I8, 9 VCC, 10 GND, 11 O8, 12 O7, 13 O6, 14 O5, 15 O4, 16 O3, 17 O2, 18 O1

## SC-TLC271CD0
designator U?
General Purpose Amplifier Circuit - 8-SOIC; Manufacturer Part Number: TLC271CD; Manufacturer: Texas Instruments; Working Temperature: 0°C ~ 70°C; Temperature Coefficient: NC; Short Description: IC OPAMP GP 1 CIRCUIT 8SOIC; Ratings: REACH, ROHS3; Voltage: 3V ~ 16V, ±1.5V ~ 8V; Value: NC; Mounting: SMT; Power: NC; Type: OPAMP; Frequency: NC; Alternate Part Number 1: *; Alternate Part Number 2: *; Tolerance: NC; Current: NC; Revision Date: 03/08/21; Package Reference: SOIC-8N
footprint SOIC-8N (Footprint not found)
pins: 1 OFFSET1, 2 IN1-, 3 IN1+, 4 GND, 5 OFFSET2, 6 OUT, 7 VDD, 8 BIAS
text: -; +

## SC-TLE49462K
designator U?
Board Mount Hall Effect / Magnetic Sensors HALLEFFECT IC'S; Manufacturer Part Number: TLE4946-2K; Alternate Part Number 1: SS30AT; Alternate Part Number 2: S-57P1NBL8S-M3T4U; Manufacturer: Infineon Technologies; Working Temperature: -40°C ~ 140°C; Temperature Coefficient: NC; Short Description: HALL EFFECT SENSOR; Ratings: REACH, ROHS3, AECQ200; Current: 20mA; Voltage: 18V; Value: NC; Mounting: SMT; Power: NC; Type: LATCH; Frequency: NC; Tolerance: NC; Revision Date: 15/10/21; Package Reference: SOT-23-3
footprint SOT-23-3 (Footprint not found)
pins: 1 Vs, 2 Q, 3 GND

## SC-TLV840CAD
designator U?
Supervisor Open Drain or Open Collector 1 Channel SOT-23-5; Manufacturer Part Number: TLV840CADL14DBVR; Manufacturer: Texas Instruments; Working Temperature: –40°C to +125°C; Temperature Coefficient: NC; Short Description: LOW-VOLTAGE SUPERVISOR WITH ADJU; Ratings: ROHS3; REACH; EAR99; 8542.39.0001; Tolerance: 0.5%; Current: 120 nA; Voltage: 0.7 V to 6 V; Value: 1.4V; Mounting: SMD; Power: NC; Type: open-drain, active-low; Frequency: NC; Alternate Part Number 1: *; Alternate Part Number 2: *; Revision Date: 25/11/2022; Package Reference: SOT-23-5; ComponentLink1Description: Datasheet; ComponentLink1URL: https://www.ti.com/lit/ds/symlink/tlv840.pdf
footprint SOT-23-5
pins: 1 ~{RESET} (oc) "Active-Low Open-drain Output Reset Signal", 2 VDD (power) "Input Supply Voltage", 3 GND (power) "Ground", 4 ~{MR} "Manual Reset", 5 CT "Capacitor Time Delay Pin"

## SC-TLV62568D
designator U?
Buck Switching Regulator IC Positive Adjustable 0.6V 1 Output 1A SC-74A, SOT-753; Manufacturer Part Number: TLV62568DBVR; Alternate Part Number 1: NX4108CZ1TR; Manufacturer: Texas Instruments; Working Temperature: -40°C ~ 125°C (TJ); Temperature Coefficient: NC; Short Description: IC REG BUCK ADJ 1A SOT23-5; Ratings: REACH, ROHS3; Frequency: 1.5MHz; Voltage: 5.5V; Value: NC; Mounting: SMT; Power: NC; Type: Buck; Alternate Part Number 2: *; Tolerance: NC; Current: 1A; Revision Date: 03/08/21; Package Reference: SOT-23-5
footprint SOT-23-5 (Footprint not found)
pins: 1 EN, 2 GND, 3 SW, 4 VIN, 5 FB

## SC-TPS7A0313
designator U?
Linear Voltage Regulator IC Positive Fixed 1 Output 200mA SOT-23-5; Manufacturer Part Number: TPS7A0313PDBVR; Alternate Part Number 1: S-1312D13-M5T1U3; Manufacturer: Texas Instruments; Working Temperature: -40°C ~ 125°C (TJ); Temperature Coefficient: NC; Short Description: 200-MA, NANOPOWER-IQ (200 NA), L; Ratings: ROHS3; Value: NC; Mounting: SMT; Power: NC; Type: LDO; Frequency: NC; Alternate Part Number 2: *; Tolerance: NC; Current: 200mA; Revision Date: 23/11/21; Package Reference: SOT-23-5; Voltage: NC
footprint SOT-23-5
pins: 1 VIN, 2 GND, 3 ON/OFF, 4 NC, 5 VOUT

## SC-TPS2116DR
designator U?, comment TPS2116DRLR
Power Switch ICs - Power Distribution 1.6-V to 5.5-V, 40-mOhm, 2.5-A, low-IQ, priority power multiplexer; Manufacturer_Name: Texas Instruments; Datasheet Link: https://www.ti.com/lit/gpn/tps2116; Height: 0.6mm; Manufacturer_Part_Number: TPS2116DRLR; Mounting: SMT
footprint SOT-5X3-8
pins: 1 GND, 2 VOUT_1, 3 VIN1, 4 PR1, 5 MODE, 6 VIN2, 7 VOUT_2, 8 ST

## SC-TPS54560D
designator U?
Buck, Split Rail Switching Regulator IC Positive Adjustable 0.8V 1 Output 5A 8-PowerSOIC (0.154", 3.90mm Width); Manufacturer Part Number: TPS54560DDA; Alternate Part Number 1: TPS54560DDAR; Manufacturer: Texas Instruments; Working Temperature: -40°C ~ 150°C (TJ); Temperature Coefficient: NC; Short Description: IC REG BCK SPLIT RAIL ADJ 8SOPWR; Ratings: REACH, ROHS3; Frequency: 100kHz ~ 2.5MHz; Voltage: 58.8V; Value: NC; Mounting: SMT; Power: NC; Type: Step-Down; Alternate Part Number 2: *; Tolerance: NC; Current: 5A; Revision Date: 03/08/21; Package Reference: SOIC-8EP
footprint SOIC-8EP (Footprint not found)
pins: 1 BOOT, 2 VIN, 3 EN, 4 RT/CLK, 5 FB, 6 COMP, 7 GND, 8 SW, 9 PWRPD

## SC-TPS61023D
designator U?, comment TPS61023DRLT
Switching Voltage Regulators 3.7-A boost converter with 0.5-V ultra-low input voltage for super capacitor; Manufacturer_Name: Texas Instruments; Datasheet Link: http://www.ti.com/general/docs/suppproductinfo.tsp?distId=10&gotoUrl=http%3A%2F%2Fwww.ti.com%2Flit%2Fgpn%2Ftps61023; Height: 0.6mm; Manufacturer_Part_Number: TPS61023DRLT; Mounting: SMT
footprint SOT-5X3
pins: 1 FB, 2 EN, 3 VIN, 4 GND, 5 SW, 6 VOUT

## SC-TS331ILT
designator U?
Comparator General Purpose Open-Drain SOT-23-5; Manufacturer Part Number: TS331ILT; Manufacturer: STMicroelectronics; Working Temperature: -40°C ~ 125°C; Temperature Coefficient: NC; Short Description: IC COMPARATOR 1 GEN PUR SOT23-5; Ratings: ROHS3, REACH; Current: 93mA @ 5V; Voltage: 1.6V ~ 5V; Value: NC; Mounting: SMD; Power: NC; Type: NC; Frequency: NC; Alternate Part Number 1: *; Alternate Part Number 2: *; Tolerance: NC; Revision Date: 04/07/2023; Package Reference: SC-74A, SOT-753; ComponentLink1Description: Datasheet; ComponentLink1URL: https://www.st.com/content/ccc/resource/technical/document/datasheet/cc/dc/2c/5f/27/46/4b/b7/CD00268545.pdf/files/CD00268545.pdf/jcr:content/translations/en.CD00268545.pdf
footprint SOT-23-5
pins: 1 IN+ (in), 2 VCC- (power), 3 IN- (in), 4 OUT (out), 5 VCC+ (power)

## SC-TSV994IYP
designator U?
General Purpose Amplifier 4 Circuit Rail-to-Rail 14-TSSOP; Manufacturer Part Number: TSV994IYPT; Manufacturer: STMicroelectronics; Working Temperature: -40°C ~ 125°C; Temperature Coefficient: NC; Short Description: IC OPAMP GP 4 CIRCUIT 14TSSOP; Ratings: REACH, ROHS3; Current: 35mA; Voltage: 2.5V ~ 5.5V; Value: NC; Mounting: SMT; Power: NC; Type: Rail-to-Rail; Frequency: NC; Alternate Part Number 1: *; Alternate Part Number 2: *; Tolerance: NC; Revision Date: 03/08/21; Package Reference: TSSOP-14
footprint TSSOP-14 (Footprint not found)
pins: 1 OUT1, 2 IN1-, 3 IN1+, 4 VCC+, 5 IN2+, 6 IN2-, 7 OUT2, 8 OUT3, 9 IN3-, 10 IN3+, 11 VCC-, 12 IN4+, 13 IN4-, 14 OUT4
text: -; +

## SC-VN5E025AJ
designator U?
Power Switch/Driver 1:1 N-Channel 43A PowerSSO-12™; Manufacturer Part Number: VN5E025AJTR-E; Manufacturer: STMicroelectronics; Working Temperature: -40°C ~ 150°C (TJ); Temperature Coefficient: NC; Short Description: IC PWR SWTCH N-CHAN 1:1 PWRSSO12; Ratings: REACH, ROHS3; Voltage: 4.5V ~ 28V; Value: NC; Mounting: SMT; Power: NC; Type: High Side; Frequency: NC; Alternate Part Number 1: *; Alternate Part Number 2: *; Tolerance: NC; Current: 43A; Revision Date: 23/08/21; Package Reference: *; ComponentLink1Description: Datasheet; ComponentLink1URL: https://www.st.com/content/ccc/resource/technical/document/datasheet/group2/1a/41/27/ac/c1/66/41/fd/CD00149619/files/CD00149619.pdf/jcr:content/translations/en.CD00149619.pdf
footprint POWERSSO-12
pins: 1 VCC, 2 GND, 3 INPUT, 4 CS, 5 CS_DIS, 6 VCC, 7 OUTPUT, 8 OUTPUT, 9 OUTPUT, 10 OUTPUT, 11 OUTPUT, 12 OUTPUT, 13 VCC

## SC-VN750-B5X
designator U?
Power Switch/Driver 1:1 N-Channel 6A P2PAK; Manufacturer Part Number: VN750-B5; Manufacturer: STMicroelectronics; Working Temperature: -40°C ~ 150°C (TJ); Temperature Coefficient: NC; Short Description: IC PWR DRIVER N-CHAN 1:1 P2PAK; Ratings: REACH; Voltage: 5.5V ~ 36V; Value: NC; Mounting: SMT; Power: NC; Type: High-Side; Frequency: NC; Alternate Part Number 1: *; Alternate Part Number 2: *; Tolerance: NC; Current: 6A; Revision Date: 03/08/21; Package Reference: P2PAK
footprint P2PAK (Footprint not found)
pins: 1 GND, 2 INPUT, 3 Vcc, 4 STATUS, 5 OUTPUT

## SC-VND7140AJ
designator U?  (value not drawn)
Power Switch/Driver 1:1 N-Channel 8A PowerSSO-16; Manufacturer Part Number: VND7140AJTR; Manufacturer: STMicroelectronics; Working Temperature: -40°C ~ 150°C (TJ); Temperature Coefficient: NC; Short Description: IC PWR DRVR N-CHAN 1:1 PWRSSO16; Ratings: REACH, ROHS3; Voltage: 4V ~ 28V; Value: NC; Mounting: SMT; Power: NC; Type: High Side; Frequency: NC; Alternate Part Number 1: *; Alternate Part Number 2: *; Tolerance: NC; Current: 8A; Revision Date: 23/08/21; Package Reference: *
footprint PowerSSO-16
pins: 1 INPUT 0, 2 *Faultrst, 3 SEN, 4 GND, 5 SEL 0, 6 SEL 1, 7 MSENSE, 8 INPUT 1, 9 OUTPUT 1, 10 OUTPUT 1, 11 OUTPUT 1, 12 OUTPUT 1, 13 OUTPUT 0, 14 OUTPUT 0, 15 OUTPUT 0, 16 OUTPUT 0, 17 EPAD

## SC-VNH2SP30E
designator U?
Motor Driver Power MOSFET PWM MultiPowerSO-30; Manufacturer Part Number: VNH2SP30-E; Manufacturer: STMicroelectronics; Working Temperature: -40°C ~ 150°C (TJ); Temperature Coefficient: NC; Short Description: IC MTR DRV 5.5-16V MULTIPWRSO-30; Ratings: REACH, ROHS3; Current: 30A; Value: NC; Mounting: SMT; Power: NC; Type: H-Bridge; Frequency: NC; Alternate Part Number 1: *; Alternate Part Number 2: *; Tolerance: NC; Revision Date: 03/08/21; Package Reference: MultiPowerSO-30; Voltage: NC
footprint MULTIPOWERSO-30 (Footprint not found)
pins: 1 OUTA, 3 VCC, 5 INA, 6 ENA/DIAGA, 8 PWM, 9 CS, 10 ENB/DIAGB, 11 INB, 13 VCC, 15 OUTB, 16 OUTB, 18 GNDB, 19 GNDB, 20 GNDB, 21 OUTB, 23 VCC, 25 OUTA, 26 GNDA, 27 GNDA, 28 GNDA, 30 OUTA, 31 VCC, 32 OUTB, 33 OUTA

## SC-VNH5019AE
designator U?
Motor Driver Power MOSFET Parallel, PWM MultiPowerSO-30; Manufacturer Part Number: VNH5019ATR-E; Manufacturer: STMicroelectronics; Working Temperature: -40°C ~ 150°C (TJ); Temperature Coefficient: NC; Short Description: IC MTR DRV 5.5-24V MULTIPWRSO-30; Ratings: REACH, ROHS3; Current: 30A; Value: NC; Mounting: SMT; Power: NC; Type: H-Bridge; Frequency: NC; Alternate Part Number 1: *; Alternate Part Number 2: *; Tolerance: NC; Revision Date: 03/08/21; Package Reference: MultiPowerSO-30; Voltage: NC
footprint MULTIPOWERSO-30 (Footprint not found)
pins: 1 OUTA, 3 VCC, 4 INA, 5 ENA/DIAGA, 6 CS_DIS, 7 PWM, 8 CS, 9 ENB/DIAGB, 10 INB, 11 CP, 12 Vbat, 13 VCC, 15 OUTB, 16 OUTB, 18 GNDB, 19 GNDB, 20 GNDB, 21 OUTB, 23 VCC, 25 OUTA, 26 GNDA, 27 GNDA, 28 GNDA, 30 OUTA, 31 VCC, 32 OUTB, 33 OUTA

## SC-ZXCT1008X
designator U?
Current Monitor Regulator High-Side 25mA SOT-23-3; Manufacturer Part Number: ZXCT1008FTA; Manufacturer: Diodes Incorporated; Working Temperature: -40°C ~ 85°C; Temperature Coefficient: NC; Short Description: IC CURRENT MONITOR 1% SOT23-3; Ratings: REACH, ROHS3; Voltage: 2.5V ~ 20V; Value: NC; Mounting: SMT; Power: NC; Type: Current Monitor; Frequency: NC; Alternate Part Number 1: *; Alternate Part Number 2: *; Tolerance: NC; Current: NC; Revision Date: 03/08/21; Package Reference: SOT-23-3
footprint SOT-23-3 (Footprint not found)
pins: 1 Vsense-, 2 Vsense+, 3 IOUT

## SCSN74LVC2G0
designator U?
AND GATE, 2CH, 8VSSOP; Manufacturer Part Number: SN74LVC2G08DCUR; Manufacturer: Texas Instruments; Working Temperature: -40°C ~ 125°C (TA); Temperature Coefficient: NC; Short Description: AND Gate IC 2 Channel 8-VSSOP; Ratings: ROHS3; Voltage: 1.65V ~ 5.5V; Value: NC; Mounting: SMT; Power: NC; Type: NC; Frequency: NC; Alternate Part Number 1: *; Alternate Part Number 2: *; Tolerance: NC; Current: NC; Revision Date: 26/06/23; Package Reference: VSSOP-8
footprint VSSOP-8_P0.5
part A pins: 1 1A (in), 2 1B (in), 7 1Y (out)
part B pins: 3 2Y (out), 5 2A (in), 6 2B (in)
part C pins: 4 GND (power), 8 VCC (power)

## SCSN74LVC2G1
designator U?
NAND SCHMITT TRIGGER GATE, 2CH, SM8; Manufacturer Part Number: SN74LVC2G132DCTR; Manufacturer: Texas Instruments; Working Temperature: -40°C ~ 125°C (TA); Temperature Coefficient: NC; Short Description: NAND Gate IC 2 Channel Schmitt Trigger SM8; Ratings: ROHS3; Voltage: 1.65V ~ 5.5V; Value: NC; Mounting: SMT; Power: NC; Type: NC; Frequency: NC; Alternate Part Number 1: *; Alternate Part Number 2: *; Tolerance: NC; Current: NC; Revision Date: 26/06/23; Package Reference: SM8
footprint SSOP-8
part A pins: 1 1A (in), 2 1B (in), 7 1Y (out)
part B pins: 3 2Y (out), 5 2A (in), 6 2B (in)
part C pins: 4 GND (power), 8 VCC (power)